# Altium schematic symbol library HQ_RPI_T113_V04_162_Library.SchLib: 163 symbols
Pins are listed as number, name and electrical type; pins without a type are passive.

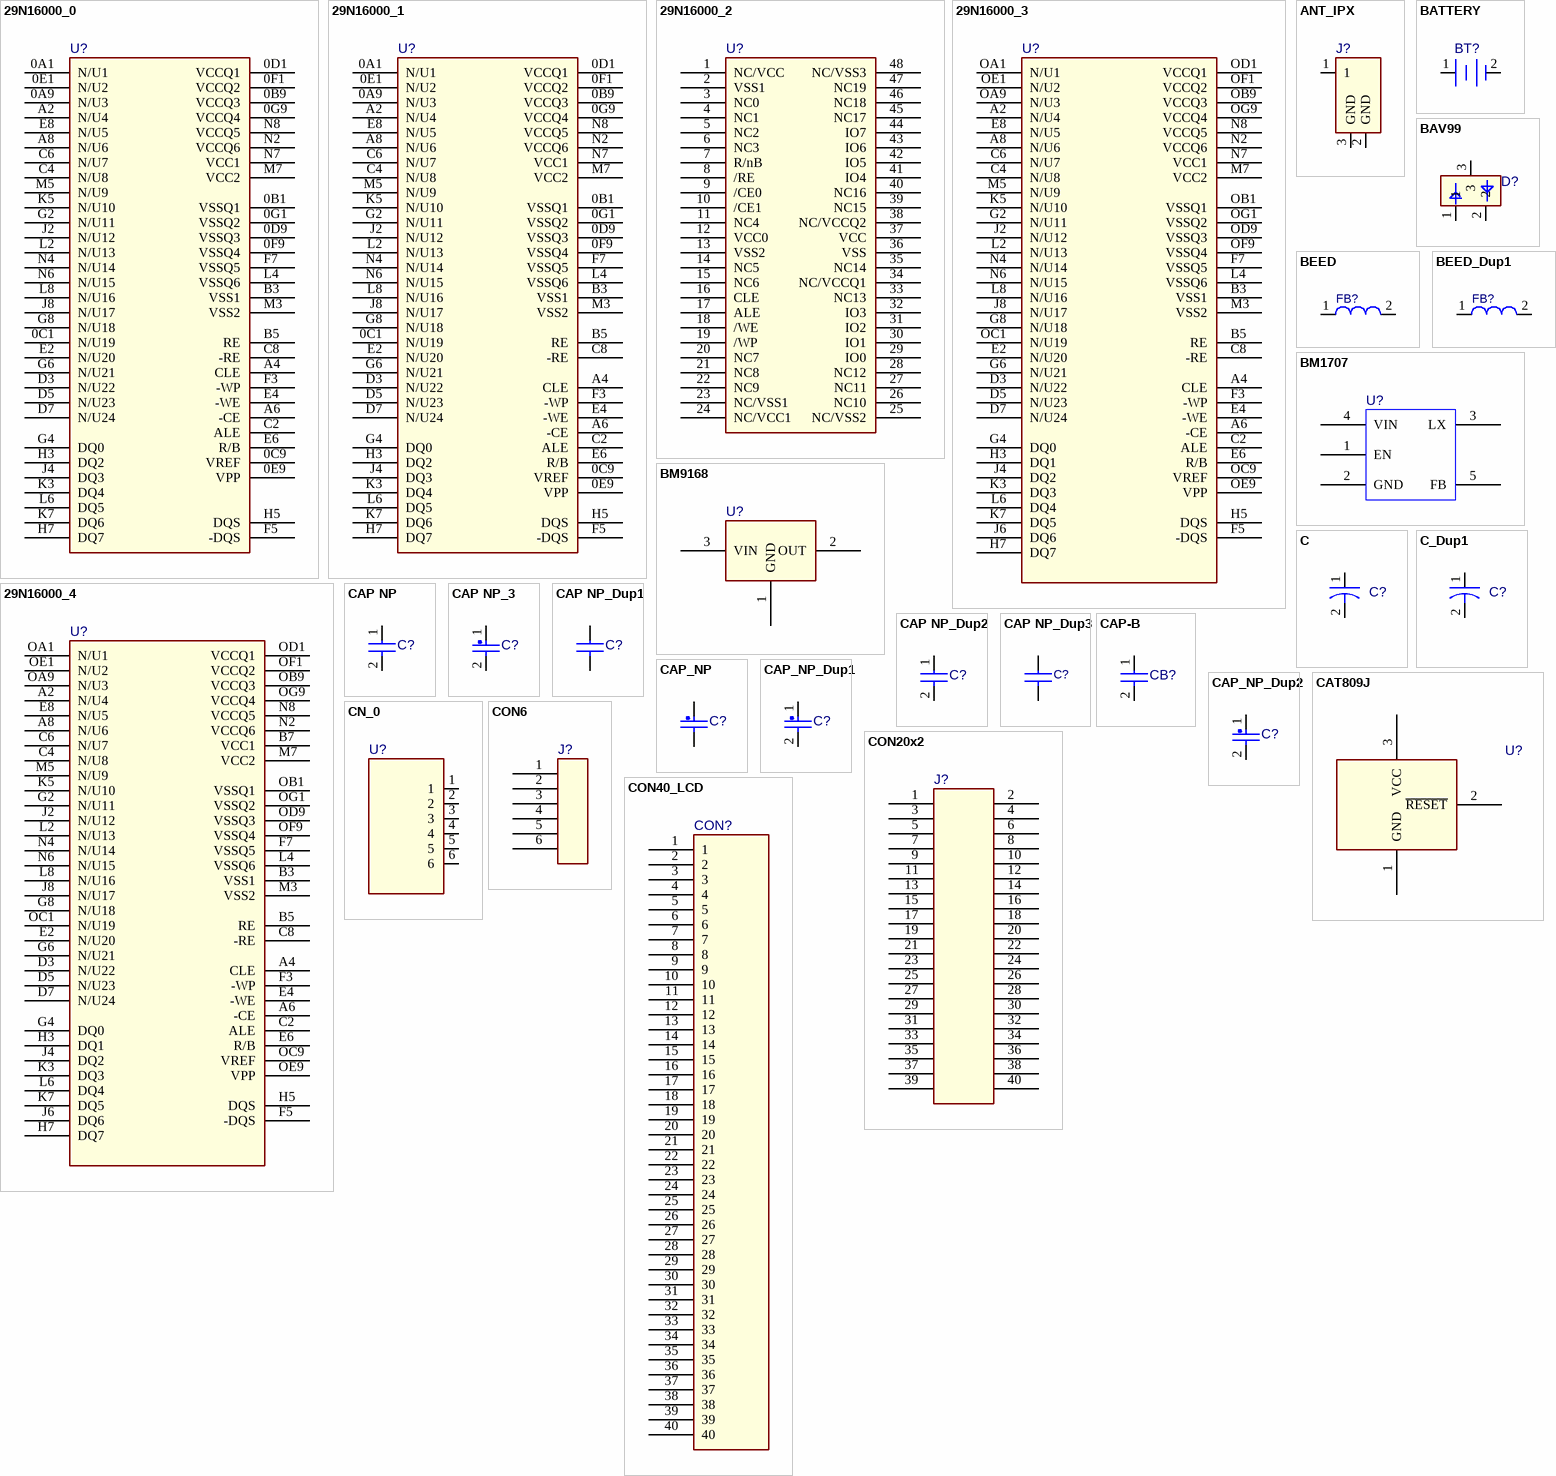
[diagram p0: symbols 29N16000_0 to CON40_LCD]

## 29N16000_0
designator U?
pins: 0A1 N/U1, 0A9 N/U3, 0B1 VSSQ1, 0B9 VCCQ3, 0C1 N/U19, 0C9 VREF, 0D1 VCCQ1, 0D9 VSSQ3, 0E1 N/U2, 0E9 VPP, 0F1 VCCQ2, 0F9 VSSQ4, 0G1 VSSQ2, 0G9 VCCQ4, A2 N/U4, A4 CLE, A6 -CE, A8 N/U6, B3 VSS1, B5 RE, C2 ALE, C4 N/U8, C6 N/U7, C8 -RE, D3 N/U22, D5 N/U23, D7 N/U24, E2 N/U20, E4 -WE, E6 R/B, E8 N/U5, F3 -WP, F5 -DQS, F7 VSSQ5, G2 N/U11, G4 DQ0, G6 N/U21, G8 N/U18, H3 DQ2, H5 DQS, H7 DQ7, J2 N/U12, J4 DQ3, J8 N/U17, K3 DQ4, K5 N/U10, K7 DQ6, L2 N/U13, L4 VSSQ6, L6 DQ5, L8 N/U16, M3 VSS2, M5 N/U9, M7 VCC2, N2 VCCQ6, N4 N/U14, N6 N/U15, N7 VCC1, N8 VCCQ5

## 29N16000_1
designator U?
pins: 0A1 N/U1, 0A9 N/U3, 0B1 VSSQ1, 0B9 VCCQ3, 0C1 N/U19, 0C9 VREF, 0D1 VCCQ1, 0D9 VSSQ3, 0E1 N/U2, 0E9 VPP, 0F1 VCCQ2, 0F9 VSSQ4, 0G1 VSSQ2, 0G9 VCCQ4, A2 N/U4, A4 CLE, A6 -CE, A8 N/U6, B3 VSS1, B5 RE, C2 ALE, C4 N/U8, C6 N/U7, C8 -RE, D3 N/U22, D5 N/U23, D7 N/U24, E2 N/U20, E4 -WE, E6 R/B, E8 N/U5, F3 -WP, F5 -DQS, F7 VSSQ5, G2 N/U11, G4 DQ0, G6 N/U21, G8 N/U18, H3 DQ2, H5 DQS, H7 DQ7, J2 N/U12, J4 DQ3, J8 N/U17, K3 DQ4, K5 N/U10, K7 DQ6, L2 N/U13, L4 VSSQ6, L6 DQ5, L8 N/U16, M3 VSS2, M5 N/U9, M7 VCC2, N2 VCCQ6, N4 N/U14, N6 N/U15, N7 VCC1, N8 VCCQ5

## 29N16000_2
designator U?
pins: 1 NC/VCC, 2 VSS1, 3 NC0, 4 NC1, 5 NC2, 6 NC3, 7 R/nB, 8 /RE, 9 /CE0, 10 /CE1, 11 NC4, 12 VCC0, 13 VSS2, 14 NC5, 15 NC6, 16 CLE, 17 ALE, 18 /WE, 19 /WP, 20 NC7, 21 NC8, 22 NC9, 23 NC/VSS1, 24 NC/VCC1, 25 NC/VSS2, 26 NC10, 27 NC11, 28 NC12, 29 IO0, 30 IO1, 31 IO2, 32 IO3, 33 NC13, 34 NC/VCCQ1, 35 NC14, 36 VSS, 37 VCC, 38 NC/VCCQ2, 39 NC15, 40 NC16, 41 IO4, 42 IO5, 43 IO6, 44 IO7, 45 NC17, 46 NC18, 47 NC19, 48 NC/VSS3

## 29N16000_3
designator U?
pins: A2 N/U4, A4 CLE, A6 -CE, A8 N/U6, B3 VSS1, B5 RE, C2 ALE, C4 N/U8, C6 N/U7, C8 -RE, D3 N/U22, D5 N/U23, D7 N/U24, E2 N/U20, E4 -WE, E6 R/B, E8 N/U5, F3 -WP, F5 -DQS, F7 VSSQ5, G2 N/U11, G4 DQ0, G6 N/U21, G8 N/U18, H3 DQ1, H5 DQS, H7 DQ7, J2 N/U12, J4 DQ2, J6 DQ6, J8 N/U17, K3 DQ3, K5 N/U10, K7 DQ5, L2 N/U13, L4 VSSQ6, L6 DQ4, L8 N/U16, M3 VSS2, M5 N/U9, M7 VCC2, N2 VCCQ6, N4 N/U14, N6 N/U15, N7 VCC1, N8 VCCQ5, OA1 N/U1, OA9 N/U3, OB1 VSSQ1, OB9 VCCQ3, OC1 N/U19, OC9 VREF, OD1 VCCQ1, OD9 VSSQ3, OE1 N/U2, OE9 VPP, OF1 VCCQ2, OF9 VSSQ4, OG1 VSSQ2, OG9 VCCQ4

## 29N16000_4
designator U?
pins: A2 N/U4, A4 CLE, A6 -CE, A8 N/U6, B3 VSS1, B5 RE, B7 VCC1, C2 ALE, C4 N/U8, C6 N/U7, C8 -RE, D3 N/U22, D5 N/U23, D7 N/U24, E2 N/U20, E4 -WE, E6 R/B, E8 N/U5, F3 -WP, F5 -DQS, F7 VSSQ5, G2 N/U11, G4 DQ0, G6 N/U21, G8 N/U18, H3 DQ1, H5 DQS, H7 DQ7, J2 N/U12, J4 DQ2, J6 DQ6, J8 N/U17, K3 DQ3, K5 N/U10, K7 DQ5, L2 N/U13, L4 VSSQ6, L6 DQ4, L8 N/U16, M3 VSS2, M5 N/U9, M7 VCC2, N2 VCCQ6, N4 N/U14, N6 N/U15, N8 VCCQ5, OA1 N/U1, OA9 N/U3, OB1 VSSQ1, OB9 VCCQ3, OC1 N/U19, OC9 VREF, OD1 VCCQ1, OD9 VSSQ3, OE1 N/U2, OE9 VPP, OF1 VCCQ2, OF9 VSSQ4, OG1 VSSQ2, OG9 VCCQ4

## ANT_IPX
designator J?
footprint ANT_IPX
pins: 1, 2 GND, 3 GND

## BATTERY
designator BT?
footprint CON_CR2032
pins: 1 +, 2 -

## BAV99
designator D?
footprint SOT23
pins: 1, 2, 3

## BEED
designator FB?
footprint L0805
pins: 1, 2

## BEED_Dup1
designator FB?
footprint L0805
pins: 1, 2

## BM1707
designator U?
footprint SOT23-5
pins: 1 EN, 2 GND, 3 LX, 4 VIN, 5 FB

## BM9168
designator U?
footprint SOT23
pins: 1 GND, 2 OUT, 3 VIN

## C
designator C?
footprint C1206
pins: 1, 2

## C_Dup1
designator C?
footprint C1206
pins: 1, 2

## CAP NP
designator C?
footprint C0603
pins: 1, 2

## CAP NP_3
designator C?
CLASS: DISCRETE
footprint C0603
pins: 1, 2

## CAP NP_Dup1
designator C?
pins: 1, 2

## CAP NP_Dup2
designator C?
footprint RC_C0603
pins: 1, 2

## CAP NP_Dup3
designator C?
OriginalSymbolOrigin: (0,0)
pins: 1, 2

## CAP-B
designator CB?
pins: 1, 2

## CAP_NP
designator C?
CLASS: DISCRETE
pins: 1, 2

## CAP_NP_Dup1
designator C?
CLASS: DISCRETE
footprint C0603
pins: 1, 2

## CAP_NP_Dup2
designator C?
CLASS: DISCRETE
footprint C0603
pins: 1, 2

## CAT809J
designator U?
footprint SOT23
pins: 1 GND, 2 ~{RESET}, 3 VCC

## CN_0
designator U?
pins: 1, 2, 3, 4, 5, 6

## CON6
designator J?
pins: 1, 2, 3, 4, 5, 6

## CON20x2
designator J?
pins: 1, 2, 3, 4, 5, 6, 7, 8, 9, 10, 11, 12, 13, 14, 15, 16, 17, 18, 19, 20, 21, 22, 23, 24, 25, 26, 27, 28, 29, 30, 31, 32, 33, 34, 35, 36, 37, 38, 39, 40

## CON40_LCD
designator CON?
pins: 1, 2, 3, 4, 5, 6, 7, 8, 9, 10, 11, 12, 13, 14, 15, 16, 17, 18, 19, 20, 21, 22, 23, 24, 25, 26, 27, 28, 29, 30, 31, 32, 33, 34, 35, 36, 37, 38, 39, 40

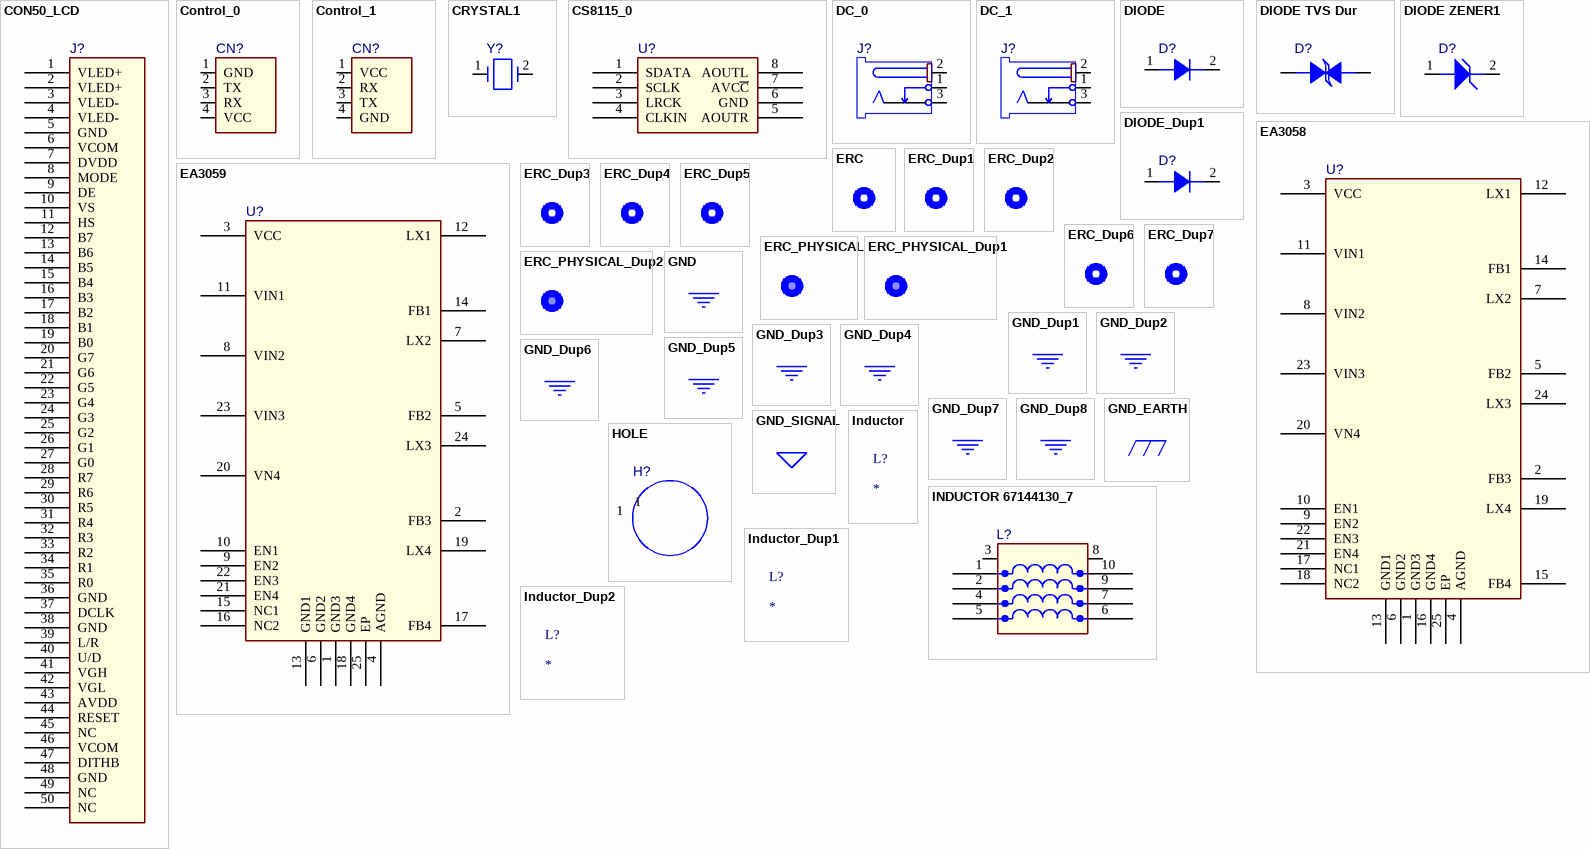
[diagram p1: symbols CON50_LCD to Inductor_Dup2]

## CON50_LCD
designator J?
pins: 1 VLED+, 2 VLED+, 3 VLED-, 4 VLED-, 5 GND, 6 VCOM, 7 DVDD, 8 MODE, 9 DE, 10 VS, 11 HS, 12 B7, 13 B6, 14 B5, 15 B4, 16 B3, 17 B2, 18 B1, 19 B0, 20 G7, 21 G6, 22 G5, 23 G4, 24 G3, 25 G2, 26 G1, 27 G0, 28 R7, 29 R6, 30 R5, 31 R4, 32 R3, 33 R2, 34 R1, 35 R0, 36 GND, 37 DCLK, 38 GND, 39 L/R, 40 U/D, 41 VGH, 42 VGL, 43 AVDD, 44 RESET, 45 NC, 46 VCOM, 47 DITHB, 48 GND, 49 NC, 50 NC

## Control_0
designator CN?
pins: 1 GND, 2 TX, 3 RX, 4 VCC

## Control_1
designator CN?
pins: 1 VCC, 2 RX, 3 TX, 4 GND

## CRYSTAL1
designator Y?
footprint XTAL_3
pins: 1, 2

## CS8115_0
designator U?
footprint MSOP8
pins: 1 SDATA, 2 SCLK, 3 LRCK, 4 CLKIN, 5 AOUTR, 6 GND, 7 AVC~{C}, 8 AOUTL

## DC_0
designator J?
footprint DC_005B
pins: 1, 2, 3

## DC_1
designator J?
footprint DC_005B
pins: 1, 2, 3

## DIODE
designator D?
footprint D0805
pins: 1 A, 2 K

## DIODE TVS Dur
designator D?
footprint SMB
pins: 1 ANODE, 2 CATHODE

## DIODE ZENER1
designator D?
pins: 1 ANODE, 2 CATHODE

## DIODE_Dup1
designator D?
footprint DIODE
pins: 1 A, 2 K

## EA3058
designator U?
footprint QFN24_0P5_4X4_EP
pins: 1 GND3, 2 FB3, 3 VCC, 4 AGND, 5 FB2, 6 GND2, 7 LX2, 8 VIN2, 9 EN2, 10 EN1, 11 VIN1, 12 LX1, 13 GND1, 14 FB1, 15 FB4, 16 GND4, 17 NC1, 18 NC2, 19 LX4, 20 VN4, 21 EN4, 22 EN3, 23 VIN3, 24 LX3, 25 EP

## EA3059
designator U?
footprint QFN24_0P5_4X4_EP
pins: 1 GND3, 2 FB3, 3 VCC, 4 AGND, 5 FB2, 6 GND2, 7 LX2, 8 VIN2, 9 EN2, 10 EN1, 11 VIN1, 12 LX1, 13 GND1, 14 FB1, 15 NC1, 16 NC2, 17 FB4, 18 GND4, 19 LX4, 20 VN4, 21 EN4, 22 EN3, 23 VIN3, 24 LX3, 25 EP

## ERC
designator *  (value not drawn)  (graphical)

## ERC_Dup1
designator *  (value not drawn)  (graphical)

## ERC_Dup2
designator *  (value not drawn)  (graphical)

## ERC_Dup3
designator *  (value not drawn)  (graphical)

## ERC_Dup4
designator *  (value not drawn)  (graphical)

## ERC_Dup5
designator *  (value not drawn)  (graphical)

## ERC_Dup6
designator *  (value not drawn)  (graphical)

## ERC_Dup7
designator *  (value not drawn)  (graphical)

## ERC_PHYSICAL
designator *  (value not drawn)  (graphical)

## ERC_PHYSICAL_Dup1
designator *  (value not drawn)  (graphical)

## ERC_PHYSICAL_Dup2
designator *  (value not drawn)  (graphical)

## GND
designator *  (value not drawn)  (graphical)
pins: $PIN0 (power) hidden to $PIN0

## GND_Dup1
designator *  (value not drawn)  (graphical)
pins: $PIN0 (power) hidden to $PIN0

## GND_Dup2
designator *  (value not drawn)  (graphical)
pins: $PIN0 (power) hidden to $PIN0

## GND_Dup3
designator *  (value not drawn)  (graphical)
pins: $PIN0 (power) hidden to $PIN0

## GND_Dup4
designator *  (value not drawn)  (graphical)
pins: $PIN0 (power) hidden to $PIN0

## GND_Dup5
designator *  (value not drawn)  (graphical)
pins: $PIN0 (power) hidden to $PIN0

## GND_Dup6
designator *  (value not drawn)  (graphical)
pins: $PIN0 (power) hidden to $PIN0

## GND_Dup7
designator *  (value not drawn)  (graphical)
pins: $PIN0 (power) hidden to $PIN0

## GND_Dup8
designator *  (value not drawn)  (graphical)
SDTSourceLibName: C:\rd\ui\DEVICE.LIB
pins: $PIN0 (power) hidden to $PIN0

## GND_EARTH
designator *  (value not drawn)  (graphical)
pins: $PIN0 (power) hidden to $PIN0

## GND_SIGNAL
designator *  (value not drawn)  (graphical)
pins: GND (power) hidden to GND

## HOLE
designator H?
footprint HOLE-260/125
pins: 1

## Inductor
designator L?
footprint L4X4

## INDUCTOR 67144130_7
designator L?
pins: 1, 2, 3, 4, 5, 6, 7, 8, 9, 10

## Inductor_Dup1
designator L?
footprint L4X4

## Inductor_Dup2
designator L?
footprint L1206

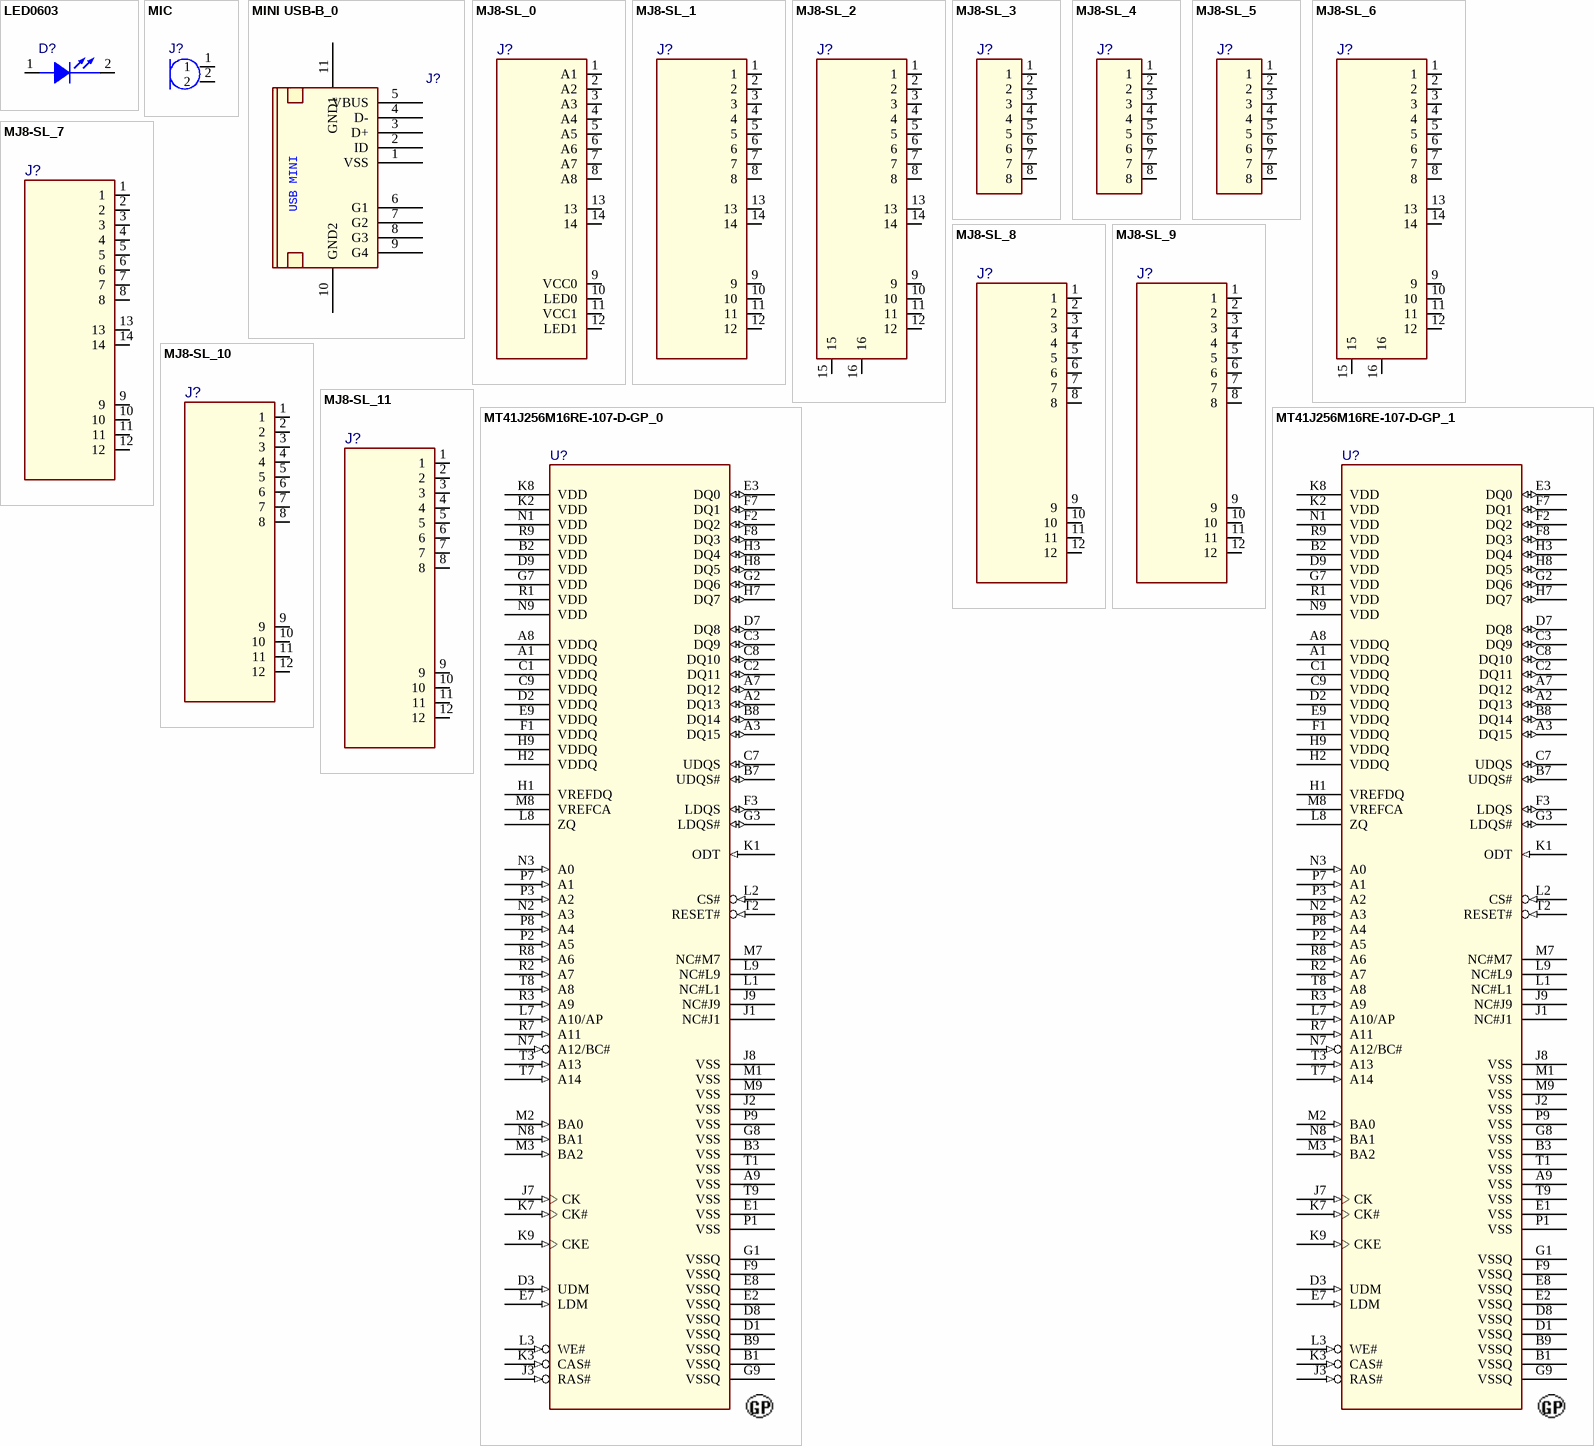
[diagram p2: symbols LED0603 to MT41J256M16RE-107-D-GP_1]

## LED0603
designator D?
footprint LED0603
pins: 1 ANODE, 2 CATHODE

## MIC
designator J?
footprint MIC_01
pins: 1, 2

## MINI USB-B_0
designator J?
pins: 1 VSS, 2 ID, 3 D+, 4 D-, 5 VBUS, 6 G1, 7 G2, 8 G3, 9 G4, 10 GND2, 11 GND1
text: USB MINI

## MJ8-SL_0
designator J?, comment MJ8-SL  (value not drawn)
PARTS: 1; DEVICE: MJ8_L; LEVEL: STD; OriginalSymbolOrigin: (0,0); Value: MJ8-SL
pins: 1 A1 (io), 2 A2 (io), 3 A3 (io), 4 A4 (io), 5 A5 (io), 6 A6 (io), 7 A7 (io), 8 A8 (io), 9 VCC0 (io), 10 LED0 (io), 11 VCC1 (io), 12 LED1 (io), 13 (io), 14 (io)

## MJ8-SL_1
designator J?, comment MJ8-SL  (value not drawn)
PARTS: 1; OriginalSymbolOrigin: (0,0); LEVEL: STD; DEVICE: MJ8_L; Value: MJ8-SL
pins: 1 (io), 2 (io), 3 (io), 4 (io), 5 (io), 6 (io), 7 (io), 8 (io), 9 (io), 10 (io), 11 (io), 12 (io), 13 (io), 14 (io)

## MJ8-SL_2
designator J?, comment MJ8-SL  (value not drawn)
PARTS: 1; OriginalSymbolOrigin: (0,0); LEVEL: STD; DEVICE: MJ8_L; Value: MJ8-SL
pins: 1 (io), 2 (io), 3 (io), 4 (io), 5 (io), 6 (io), 7 (io), 8 (io), 9 (io), 10 (io), 11 (io), 12 (io), 13 (io), 14 (io), 15 (io), 16 (io)

## MJ8-SL_3
designator J?, comment MJ8-SL  (value not drawn)
PARTS: 1; OriginalSymbolOrigin: (0,0); LEVEL: STD; DEVICE: MJ8_L; Value: MJ8-SL
pins: 1 (io), 2 (io), 3 (io), 4 (io), 5 (io), 6 (io), 7 (io), 8 (io)

## MJ8-SL_4
designator J?, comment MJ8-SL  (value not drawn)
PARTS: 1; OriginalSymbolOrigin: (0,0); LEVEL: STD; DEVICE: MJ8_L; Value: MJ8-SL
pins: 1 (io), 2 (io), 3 (io), 4 (io), 5 (io), 6, 7, 8

## MJ8-SL_5
designator J?, comment MJ8-SL  (value not drawn)
PARTS: 1; OriginalSymbolOrigin: (0,0); LEVEL: STD; DEVICE: MJ8_L; Value: MJ8-SL
pins: 1, 2, 3, 4, 5, 6, 7, 8

## MJ8-SL_6
designator J?, comment MJ8-SL  (value not drawn)
PARTS: 1; OriginalSymbolOrigin: (0,0); LEVEL: STD; DEVICE: MJ8_L; Value: MJ8-SL
pins: 1, 2, 3, 4, 5, 6, 7, 8, 9, 10, 11, 12, 13, 14, 15 (io), 16 (io)

## MJ8-SL_7
designator J?, comment MJ8-SL  (value not drawn)
PARTS: 1; DEVICE: MJ8_L; LEVEL: STD; OriginalSymbolOrigin: (0,0); Value: MJ8-SL
pins: 1, 2, 3, 4, 5, 6, 7, 8, 9, 10, 11, 12, 13, 14

## MJ8-SL_8
designator J?, comment MJ8-SL  (value not drawn)
PARTS: 1; DEVICE: MJ8_L; LEVEL: STD; OriginalSymbolOrigin: (0,0); Value: MJ8-SL
pins: 1 (io), 2 (io), 3 (io), 4 (io), 5 (io), 6 (io), 7 (io), 8 (io), 9, 10, 11, 12

## MJ8-SL_9
designator J?, comment MJ8-SL  (value not drawn)
PARTS: 1; DEVICE: MJ8_L; LEVEL: STD; OriginalSymbolOrigin: (0,0); Value: MJ8-SL
pins: 1, 2, 3, 4, 5, 6, 7, 8, 9 (io), 10 (io), 11 (io), 12 (io)

## MJ8-SL_10
designator J?, comment MJ8-SL  (value not drawn)
PARTS: 1; DEVICE: MJ8_L; LEVEL: STD; OriginalSymbolOrigin: (0,0); Value: MJ8-SL
pins: 1, 2, 3, 4, 5, 6, 7, 8, 9, 10, 11, 12

## MJ8-SL_11
designator J?, comment MJ8-SL  (value not drawn)
PARTS: 1; OriginalSymbolOrigin: (0,0); LEVEL: STD; DEVICE: MJ8_L; Value: MJ8-SL
pins: 1, 2, 3, 4, 5, 6, 7, 8, 9, 10, 11, 12

## MT41J256M16RE-107-D-GP_0
designator U?
pins: A1 VDDQ (power), A2 DQ13 (io), A3 DQ15 (io), A7 DQ12 (io), A8 VDDQ (power), A9 VSS (power), B1 VSSQ (power), B2 VDD (power), B3 VSS (power), B7 UDQS# (io), B8 DQ14 (io), B9 VSSQ (power), C1 VDDQ (power), C2 DQ11 (io), C3 DQ9 (io), C7 UDQS (io), C8 DQ10 (io), C9 VDDQ (power), D1 VSSQ (power), D2 VDDQ (power), D3 UDM (in), D7 DQ8 (io), D8 VSSQ (power), D9 VDD (power), E1 VSS (power), E2 VSSQ (power), E3 DQ0 (io), E7 LDM (in), E8 VSSQ (power), E9 VDDQ (power), F1 VDDQ (power), F2 DQ2 (io), F3 LDQS (io), F7 DQ1 (io), F8 DQ3 (io), F9 VSSQ (power), G1 VSSQ (power), G2 DQ6 (io), G3 LDQS# (io), G7 VDD (power), G8 VSS (power), G9 VSSQ (power), H1 VREFDQ (power), H2 VDDQ (power), H3 DQ4 (io), H7 DQ7 (io), H8 DQ5 (io), H9 VDDQ (power), J1 NC#J1, J2 VSS (power), J3 RAS# (in), J7 CK (in), J8 VSS (power), J9 NC#J9, K1 ODT (in), K2 VDD (power), K3 CAS# (in), K7 CK# (in), K8 VDD (power), K9 CKE (in), L1 NC#L1, L2 CS# (in), L3 WE# (in), L7 A10/AP (in), L8 ZQ, L9 NC#L9, M1 VSS (power), M2 BA0 (in), M3 BA2 (in), M7 NC#M7, M8 VREFCA (power), M9 VSS (power), N1 VDD (power), N2 A3 (in), N3 A0 (in), N7 A12/BC# (in), N8 BA1 (in), N9 VDD (power), P1 VSS (power), P2 A5 (in), P3 A2 (in), P7 A1 (in), P8 A4 (in), P9 VSS (power), R1 VDD (power), R2 A7 (in), R3 A9 (in), R7 A11 (in), R8 A6 (in), R9 VDD (power), T1 VSS (power), T2 RESET# (in), T3 A13 (in), T7 A14 (in), T8 A8 (in), T9 VSS (power)

## MT41J256M16RE-107-D-GP_1
designator U?
pins: A1 VDDQ, A2 DQ13 (io), A3 DQ15 (io), A7 DQ12 (io), A8 VDDQ, A9 VSS (power), B1 VSSQ (power), B2 VDD, B3 VSS (power), B7 UDQS# (io), B8 DQ14 (io), B9 VSSQ (power), C1 VDDQ, C2 DQ11 (io), C3 DQ9 (io), C7 UDQS (io), C8 DQ10 (io), C9 VDDQ, D1 VSSQ (power), D2 VDDQ, D3 UDM (in), D7 DQ8 (io), D8 VSSQ (power), D9 VDD, E1 VSS (power), E2 VSSQ (power), E3 DQ0 (io), E7 LDM (in), E8 VSSQ (power), E9 VDDQ, F1 VDDQ, F2 DQ2 (io), F3 LDQS (io), F7 DQ1 (io), F8 DQ3 (io), F9 VSSQ (power), G1 VSSQ (power), G2 DQ6 (io), G3 LDQS# (io), G7 VDD, G8 VSS (power), G9 VSSQ (power), H1 VREFDQ, H2 VDDQ, H3 DQ4 (io), H7 DQ7 (io), H8 DQ5 (io), H9 VDDQ, J1 NC#J1, J2 VSS (power), J3 RAS# (in), J7 CK (in), J8 VSS (power), J9 NC#J9, K1 ODT (in), K2 VDD, K3 CAS# (in), K7 CK# (in), K8 VDD, K9 CKE (in), L1 NC#L1, L2 CS# (in), L3 WE# (in), L7 A10/AP (in), L8 ZQ, L9 NC#L9, M1 VSS (power), M2 BA0 (in), M3 BA2 (in), M7 NC#M7, M8 VREFCA (power), M9 VSS (power), N1 VDD, N2 A3 (in), N3 A0 (in), N7 A12/BC# (in), N8 BA1 (in), N9 VDD, P1 VSS (power), P2 A5 (in), P3 A2 (in), P7 A1 (in), P8 A4 (in), P9 VSS (power), R1 VDD, R2 A7 (in), R3 A9 (in), R7 A11 (in), R8 A6 (in), R9 VDD, T1 VSS (power), T2 RESET# (in), T3 A13 (in), T7 A14 (in), T8 A8 (in), T9 VSS (power)

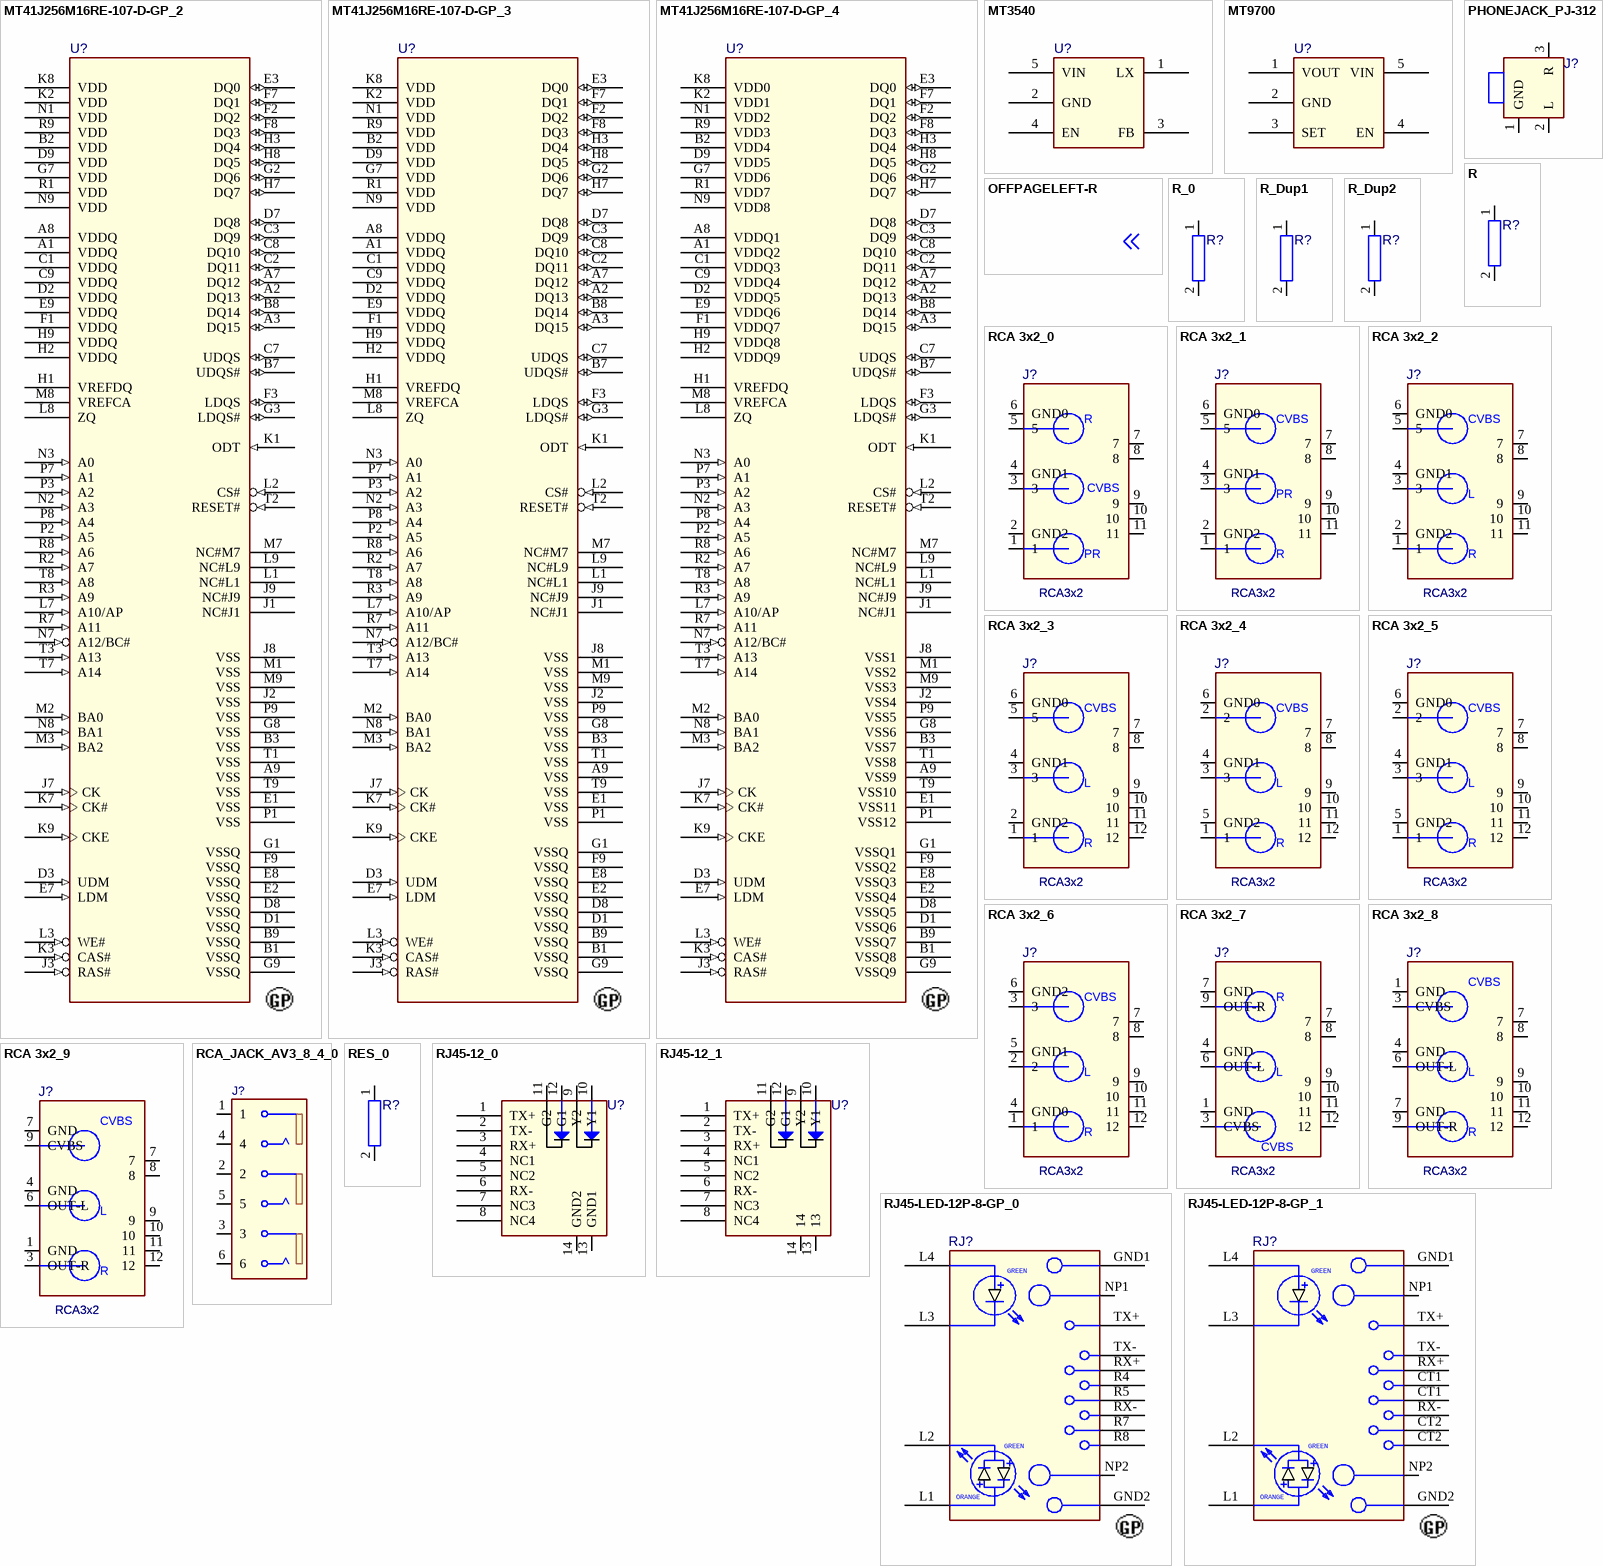
[diagram p3: symbols MT41J256M16RE-107-D-GP_2 to RJ45-LED-12P-8-GP_1]

## MT41J256M16RE-107-D-GP_2
designator U?
pins: A1 VDDQ (power), A2 DQ13 (io), A3 DQ15 (io), A7 DQ12 (io), A8 VDDQ (power), A9 VSS (power), B1 VSSQ (power), B2 VDD (power), B3 VSS (power), B7 UDQS# (io), B8 DQ14 (io), B9 VSSQ (power), C1 VDDQ (power), C2 DQ11 (io), C3 DQ9 (io), C7 UDQS (io), C8 DQ10 (io), C9 VDDQ (power), D1 VSSQ (power), D2 VDDQ (power), D3 UDM (in), D7 DQ8 (io), D8 VSSQ (power), D9 VDD (power), E1 VSS (power), E2 VSSQ (power), E3 DQ0 (io), E7 LDM (in), E8 VSSQ (power), E9 VDDQ (power), F1 VDDQ (power), F2 DQ2 (io), F3 LDQS (io), F7 DQ1 (io), F8 DQ3 (io), F9 VSSQ (power), G1 VSSQ (power), G2 DQ6 (io), G3 LDQS# (io), G7 VDD (power), G8 VSS (power), G9 VSSQ (power), H1 VREFDQ (power), H2 VDDQ (power), H3 DQ4 (io), H7 DQ7 (io), H8 DQ5 (io), H9 VDDQ (power), J1 NC#J1, J2 VSS (power), J3 RAS# (in), J7 CK (in), J8 VSS (power), J9 NC#J9, K1 ODT (in), K2 VDD (power), K3 CAS# (in), K7 CK# (in), K8 VDD (power), K9 CKE (in), L1 NC#L1, L2 CS# (in), L3 WE# (in), L7 A10/AP (in), L8 ZQ, L9 NC#L9, M1 VSS (power), M2 BA0 (in), M3 BA2 (in), M7 NC#M7, M8 VREFCA (power), M9 VSS (power), N1 VDD (power), N2 A3 (in), N3 A0 (in), N7 A12/BC# (in), N8 BA1 (in), N9 VDD (power), P1 VSS (power), P2 A5 (in), P3 A2 (in), P7 A1 (in), P8 A4 (in), P9 VSS (power), R1 VDD (power), R2 A7 (in), R3 A9 (in), R7 A11 (in), R8 A6 (in), R9 VDD (power), T1 VSS (power), T2 RESET# (in), T3 A13 (in), T7 A14 (in), T8 A8 (in), T9 VSS (power)

## MT41J256M16RE-107-D-GP_3
designator U?
pins: A1 VDDQ, A2 DQ13 (io), A3 DQ15 (io), A7 DQ12 (io), A8 VDDQ, A9 VSS (power), B1 VSSQ (power), B2 VDD, B3 VSS (power), B7 UDQS# (io), B8 DQ14 (io), B9 VSSQ (power), C1 VDDQ, C2 DQ11 (io), C3 DQ9 (io), C7 UDQS (io), C8 DQ10 (io), C9 VDDQ, D1 VSSQ (power), D2 VDDQ, D3 UDM (in), D7 DQ8 (io), D8 VSSQ (power), D9 VDD, E1 VSS (power), E2 VSSQ (power), E3 DQ0 (io), E7 LDM (in), E8 VSSQ (power), E9 VDDQ, F1 VDDQ, F2 DQ2 (io), F3 LDQS (io), F7 DQ1 (io), F8 DQ3 (io), F9 VSSQ (power), G1 VSSQ (power), G2 DQ6 (io), G3 LDQS# (io), G7 VDD, G8 VSS (power), G9 VSSQ (power), H1 VREFDQ, H2 VDDQ, H3 DQ4 (io), H7 DQ7 (io), H8 DQ5 (io), H9 VDDQ, J1 NC#J1, J2 VSS (power), J3 RAS# (in), J7 CK (in), J8 VSS (power), J9 NC#J9, K1 ODT (in), K2 VDD, K3 CAS# (in), K7 CK# (in), K8 VDD, K9 CKE (in), L1 NC#L1, L2 CS# (in), L3 WE# (in), L7 A10/AP (in), L8 ZQ, L9 NC#L9, M1 VSS (power), M2 BA0 (in), M3 BA2 (in), M7 NC#M7, M8 VREFCA (power), M9 VSS (power), N1 VDD, N2 A3 (in), N3 A0 (in), N7 A12/BC# (in), N8 BA1 (in), N9 VDD, P1 VSS (power), P2 A5 (in), P3 A2 (in), P7 A1 (in), P8 A4 (in), P9 VSS (power), R1 VDD, R2 A7 (in), R3 A9 (in), R7 A11 (in), R8 A6 (in), R9 VDD, T1 VSS (power), T2 RESET# (in), T3 A13 (in), T7 A14 (in), T8 A8 (in), T9 VSS (power)

## MT41J256M16RE-107-D-GP_4
designator U?
pins: A1 VDDQ2, A2 DQ13 (io), A3 DQ15 (io), A7 DQ12 (io), A8 VDDQ1, A9 VSS9 (power), B1 VSSQ8 (power), B2 VDD4, B3 VSS7 (power), B7 UDQS# (io), B8 DQ14 (io), B9 VSSQ7 (power), C1 VDDQ3, C2 DQ11 (io), C3 DQ9 (io), C7 UDQS (io), C8 DQ10 (io), C9 VDDQ4, D1 VSSQ6 (power), D2 VDDQ5, D3 UDM (in), D7 DQ8 (io), D8 VSSQ5 (power), D9 VDD5, E1 VSS11 (power), E2 VSSQ4 (power), E3 DQ0 (io), E7 LDM (in), E8 VSSQ3 (power), E9 VDDQ6, F1 VDDQ7, F2 DQ2 (io), F3 LDQS (io), F7 DQ1 (io), F8 DQ3 (io), F9 VSSQ2 (power), G1 VSSQ1 (power), G2 DQ6 (io), G3 LDQS# (io), G7 VDD6, G8 VSS6 (power), G9 VSSQ9 (power), H1 VREFDQ, H2 VDDQ9, H3 DQ4 (io), H7 DQ7 (io), H8 DQ5 (io), H9 VDDQ8, J1 NC#J1, J2 VSS4 (power), J3 RAS# (in), J7 CK (in), J8 VSS1 (power), J9 NC#J9, K1 ODT (in), K2 VDD1, K3 CAS# (in), K7 CK# (in), K8 VDD0, K9 CKE (in), L1 NC#L1, L2 CS# (in), L3 WE# (in), L7 A10/AP (in), L8 ZQ, L9 NC#L9, M1 VSS2 (power), M2 BA0 (in), M3 BA2 (in), M7 NC#M7, M8 VREFCA (power), M9 VSS3 (power), N1 VDD2, N2 A3 (in), N3 A0 (in), N7 A12/BC# (in), N8 BA1 (in), N9 VDD8, P1 VSS12 (power), P2 A5 (in), P3 A2 (in), P7 A1 (in), P8 A4 (in), P9 VSS5 (power), R1 VDD7, R2 A7 (in), R3 A9 (in), R7 A11 (in), R8 A6 (in), R9 VDD3, T1 VSS8 (power), T2 RESET# (in), T3 A13 (in), T7 A14 (in), T8 A8 (in), T9 VSS10 (power)

## MT3540
designator U?
footprint SOT23-5
pins: 1 LX, 2 GND, 3 FB, 4 EN, 5 VIN

## MT9700
designator U?
footprint SOT23-5
pins: 1 VOUT, 2 GND, 3 SET, 4 EN, 5 VIN

## OFFPAGELEFT-R
designator *  (value not drawn)  (graphical)
pins: $PIN0 (in) hidden

## PHONEJACK_PJ-312
designator J?
footprint PHONEJACK_PJ-312_DIP
pins: 1 GND, 2 L, 3 R

## R
designator R?
footprint R0603
pins: 1, 2

## R_0
designator R?
footprint R0603
pins: 1, 2

## R_Dup1
designator R?
footprint R0603
pins: 1, 2

## R_Dup2
designator R?
footprint R0603
pins: 1, 2

## RCA 3x2_0
designator J?, comment RCA3x2
Value: RCA3x2
footprint AV6-84-13
pins: 1, 2 GND2, 3, 4 GND1, 5, 6 GND0, 7 (io), 8 (io), 9 (io), 10 (io), 11 (io)
text: R; CVBS; PR

## RCA 3x2_1
designator J?, comment RCA3x2
Value: RCA3x2
footprint AV6-84-13
pins: 1, 2 GND2, 3, 4 GND1, 5, 6 GND0, 7 (io), 8 (io), 9 (io), 10 (io), 11 (io)
text: CVBS; PR; R

## RCA 3x2_2
designator J?, comment RCA3x2
Value: RCA3x2
footprint AV6-84-13
pins: 1, 2 GND2, 3, 4 GND1, 5, 6 GND0, 7 (io), 8 (io), 9 (io), 10 (io), 11 (io)
text: CVBS; L; R

## RCA 3x2_3
designator J?, comment RCA3x2
Value: RCA3x2
footprint AV6-84-13
pins: 1, 2 GND2, 3, 4 GND1, 5, 6 GND0, 7 (io), 8 (io), 9 (io), 10 (io), 11 (io), 12 (io)
text: CVBS; L; R

## RCA 3x2_4
designator J?, comment RCA3x2
Value: RCA3x2
footprint AV6-84-13
pins: 1, 2, 3, 4 GND1, 5 GND2, 6 GND0, 7 (io), 8 (io), 9 (io), 10 (io), 11 (io), 12 (io)
text: CVBS; L; R

## RCA 3x2_5
designator J?, comment RCA3x2
Value: RCA3x2
footprint AV6-84-13
pins: 1, 2, 3, 4 GND1, 5 GND2, 6 GND0, 7 (io), 8 (io), 9 (io), 10 (io), 11 (io), 12 (io)
text: CVBS; L; R

## RCA 3x2_6
designator J?, comment RCA3x2
Value: RCA3x2
footprint AV6-84-13
pins: 1, 2, 3, 4 GND0, 5 GND1, 6 GND2, 7 (io), 8 (io), 9 (io), 10 (io), 11 (io), 12 (io)
text: CVBS; L; R

## RCA 3x2_7
designator J?, comment RCA3x2
Value: RCA3x2
footprint AV6-84-13
pins: 1 GND, 3 CVBS, 4 GND, 6 OUT-L, 7 GND, 7 (io), 8 (io), 9 OUT-R, 9 (io), 10 (io), 11 (io), 12 (io)
text: R; L

## RCA 3x2_8
designator J?, comment RCA3x2
Value: RCA3x2
footprint AV6-84-13
pins: 1 GND, 3 CVBS, 4 GND, 6 OUT-L, 7 GND, 7 (io), 8 (io), 9 OUT-R, 9 (io), 10 (io), 11 (io), 12 (io)
text: L; R

## RCA 3x2_9
designator J?, comment RCA3x2
Value: RCA3x2
footprint AV6-84-13
pins: 1 GND, 3 OUT-R, 4 GND, 6 OUT-L, 7 GND, 7 (io), 8 (io), 9 CVBS, 9 (io), 10 (io), 11 (io), 12 (io)
text: L; R

## RCA_JACK_AV3_8_4_0
designator J?
Update: Leon;2005-3-3
footprint RCA_JACK_AV3_8_4_14
pins: 1, 2, 3, 4, 5, 6

## RES_0
designator R?
pins: 1, 2

## RJ45-12_0
designator U?
pins: 1 TX+, 2 TX-, 3 RX+, 4 NC1, 5 NC2, 6 RX-, 7 NC3, 8 NC4, 9 Y2, 10 Y1, 11 G2, 12 G1, 13 GND1, 14 GND2

## RJ45-12_1
designator U?
pins: 1 TX+, 2 TX-, 3 RX+, 4 NC1, 5 NC2, 6 RX-, 7 NC3, 8 NC4, 9 Y2, 10 Y1, 11 G2, 12 G1, 13, 14

## RJ45-LED-12P-8-GP_0
designator RJ?
pins: GND1, GND2, L1, L2, L3, L4, NP1, NP2, R4, R5, R7, R8, RX+ R3, RX- R6, TX+ R1, TX- R2
text: GREEN; ORANGE

## RJ45-LED-12P-8-GP_1
designator RJ?
pins: CT1 R4, CT1 5, CT2 7, CT2 8, GND1, GND2, L1, L2, L3, L4, NP1, NP2, RX+ 3, RX- 6, TX+ 1, TX- 2
text: GREEN; ORANGE

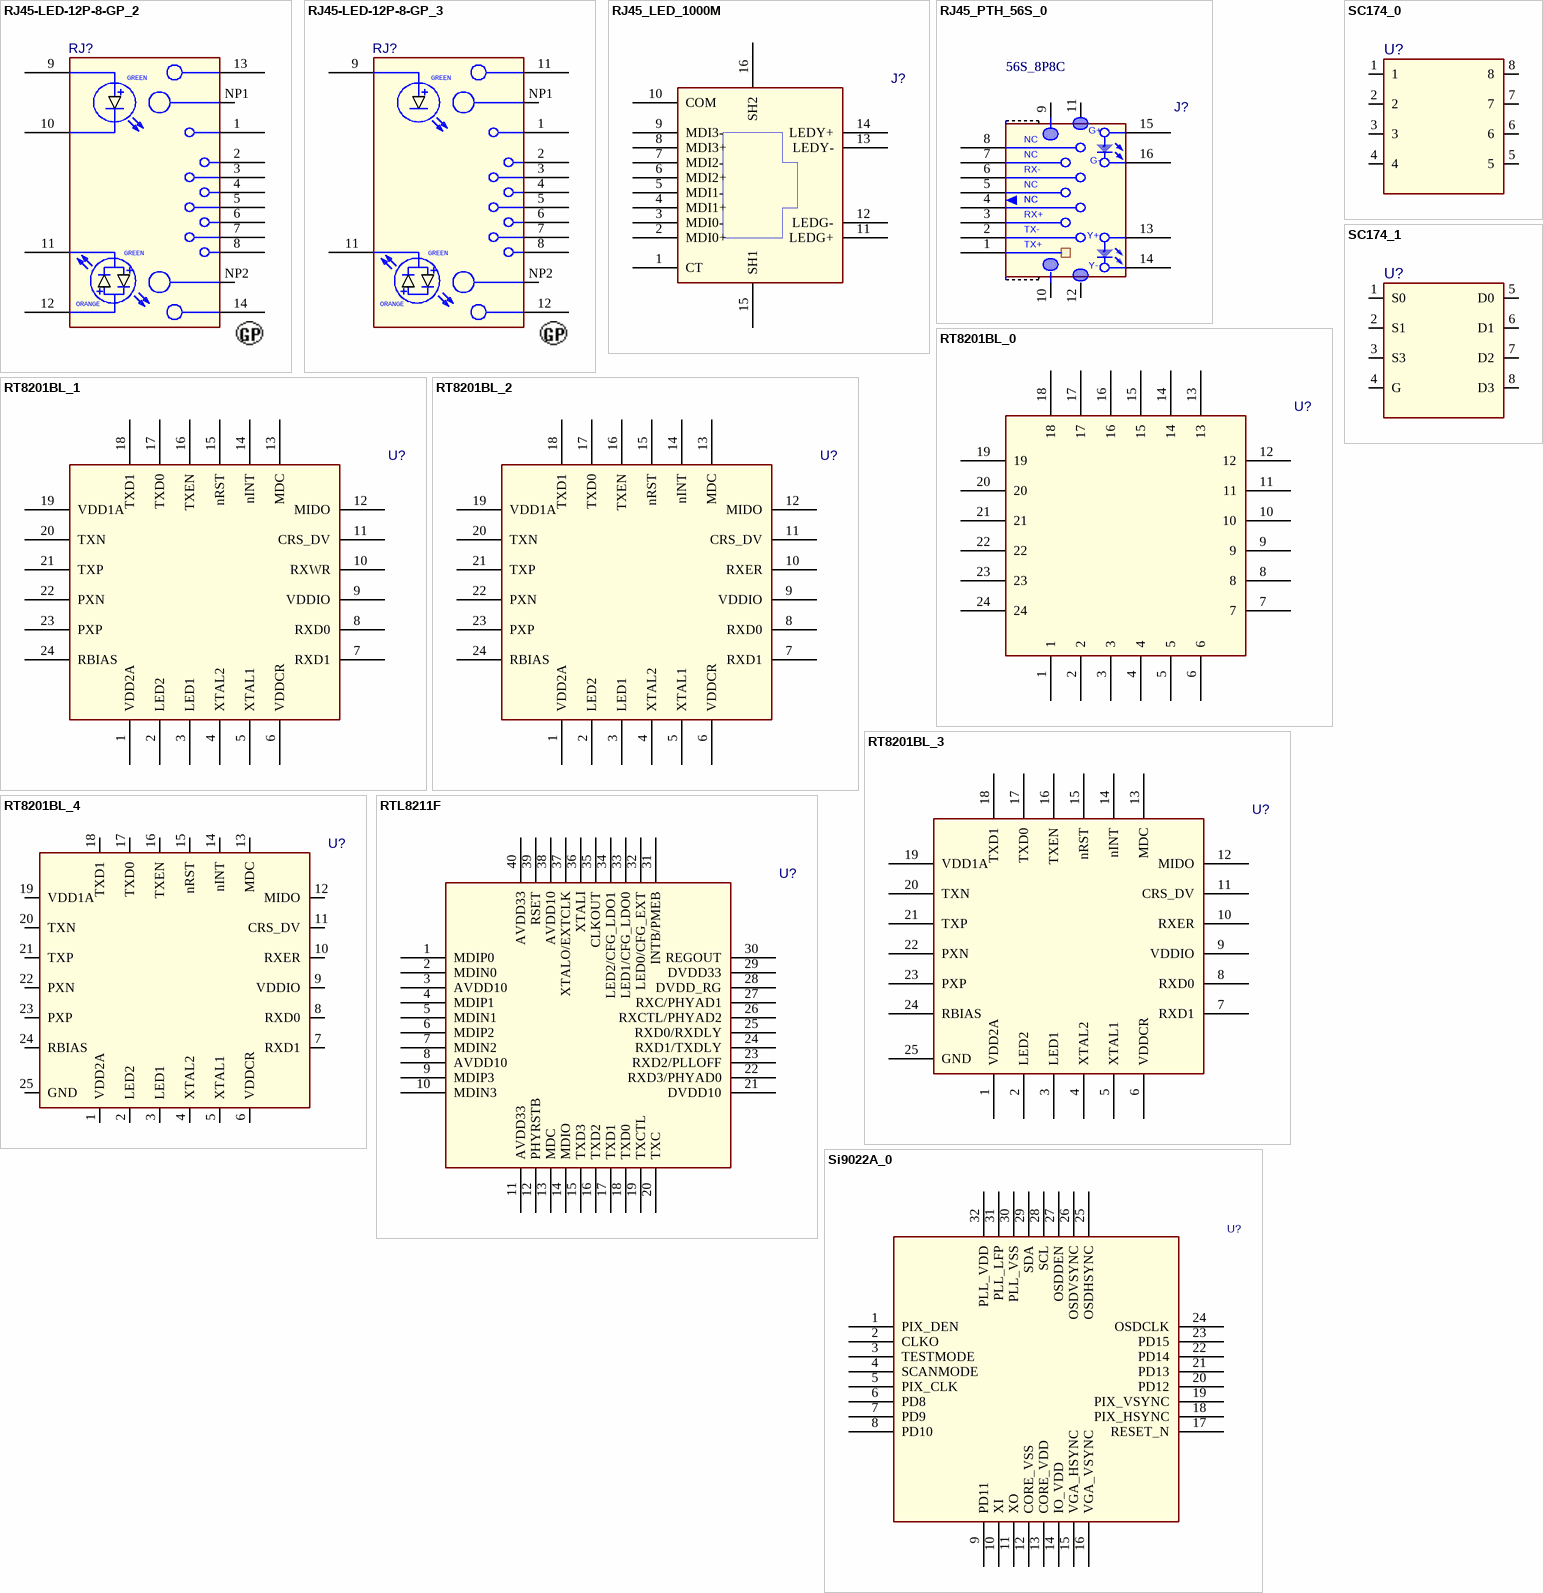
[diagram p4: symbols RJ45-LED-12P-8-GP_2 to Si9022A_0]

## RJ45-LED-12P-8-GP_2
designator RJ?
pins: 1 TX+, 2 TX-, 3 RX+, 4 CT1, 5 CT1, 6 RX-, 7 CT2, 8 CT2, 9 L4, 10 L3, 11 L2, 12 L1, 13 GND1, 14 GND2, NP1, NP2
text: GREEN; ORANGE

## RJ45-LED-12P-8-GP_3
designator RJ?
pins: 1 TX+, 2 TX-, 3 RX+, 4 CT1, 5 CT1, 6 RX-, 7 CT2, 8 CT2, 9 L4, 11 L2, 11 GND1, 12 GND2, NP1, NP2
text: GREEN; ORANGE

## RJ45_LED_1000M
designator J?
footprint HR911130A
pins: 1 CT, 2 MDI0+, 3 MDI0-, 4 MDI1+, 5 MDI1-, 6 MDI2+, 7 MDI2-, 8 MDI3+, 9 MDI3-, 10 COM, 11 LEDG+, 12 LEDG-, 13 LEDY-, 14 LEDY+, 15 SH1, 16 SH2

## RJ45_PTH_56S_0
designator J?, comment 56S_8P8C
Value: 56S_8P8C
footprint RJ45_PTH_56S_8P8C
pins: 1, 2, 3, 4, 5, 6, 7, 8, 9 SHELL3, 10 SHELL4, 11 shell2, 12 shell1, 13, 14, 15, 16
text: G+; NC; G-; RX-; RX+; TX-; Y+; TX+; Y-

## RT8201BL_0
designator U?
footprint QFP048_0050X0840
pins: 1, 2, 3, 4, 5, 6, 7, 8, 9, 10, 11, 12, 13, 14, 15, 16, 17, 18, 19, 20, 21, 22, 23, 24

## RT8201BL_1
designator U?
footprint QFP048_0050X0840
pins: 1 VDD2A, 2 LED2, 3 LED1, 4 XTAL2, 5 XTAL1, 6 VDDCR, 7 RXD1, 8 RXD0, 9 VDDIO, 10 RXWR, 11 CRS_DV, 12 MIDO, 13 MDC, 14 nINT, 15 nRST, 16 TXEN, 17 TXD0, 18 TXD1, 19 VDD1A, 20 TXN, 21 TXP, 22 PXN, 23 PXP, 24 RBIAS

## RT8201BL_2
designator U?
footprint QFP048_0050X0840
pins: 1 VDD2A, 2 LED2, 3 LED1, 4 XTAL2, 5 XTAL1, 6 VDDCR, 7 RXD1, 8 RXD0, 9 VDDIO, 10 RXER, 11 CRS_DV, 12 MIDO, 13 MDC, 14 nINT, 15 nRST, 16 TXEN, 17 TXD0, 18 TXD1, 19 VDD1A, 20 TXN, 21 TXP, 22 PXN, 23 PXP, 24 RBIAS

## RT8201BL_3
designator U?
footprint QFP048_0050X0840
pins: 1 VDD2A, 2 LED2, 3 LED1, 4 XTAL2, 5 XTAL1, 6 VDDCR, 7 RXD1, 8 RXD0, 9 VDDIO, 10 RXER, 11 CRS_DV, 12 MIDO, 13 MDC, 14 nINT, 15 nRST, 16 TXEN, 17 TXD0, 18 TXD1, 19 VDD1A, 20 TXN, 21 TXP, 22 PXN, 23 PXP, 24 RBIAS, 25 GND

## RT8201BL_4
designator U?
footprint QFP048_0050X0840
pins: 1 VDD2A, 2 LED2, 3 LED1, 4 XTAL2, 5 XTAL1, 6 VDDCR, 7 RXD1, 8 RXD0, 9 VDDIO, 10 RXER, 11 CRS_DV, 12 MIDO, 13 MDC, 14 nINT, 15 nRST, 16 TXEN, 17 TXD0, 18 TXD1, 19 VDD1A, 20 TXN, 21 TXP, 22 PXN, 23 PXP, 24 RBIAS, 25 GND

## RTL8211F
designator U?
footprint QFN40_GNDPAD
pins: 1 MDIP0, 2 MDIN0, 3 AVDD10 (power), 4 MDIP1, 5 MDIN1, 6 MDIP2, 7 MDIN2, 8 AVDD10 (power), 9 MDIP3, 10 MDIN3, 11 AVDD33 (power), 12 PHYRSTB, 13 MDC, 14 MDIO, 15 TXD3, 16 TXD2, 17 TXD1, 18 TXD0, 19 TXCTL, 20 TXC, 21 DVDD10 (power), 22 RXD3/PHYAD0, 23 RXD2/PLLOFF, 24 RXD1/TXDLY, 25 RXD0/RXDLY, 26 RXCTL/PHYAD2, 27 RXC/PHYAD1, 28 DVDD_RG, 29 DVDD33 (power), 30 REGOUT, 31 INTB/PMEB, 32 LED0/CFG_EXT, 33 LED1/CFG_LDO0, 34 LED2/CFG_LDO1, 35 CLKOUT, 36 XTALI, 37 XTALO/EXTCLK, 38 AVDD10 (power), 39 RSET, 40 AVDD33 (power)

## SC174_0
designator U?, comment SC174  (value not drawn)
PARTS: 1; LEVEL: STD; OriginalSymbolOrigin: (20,0); DEVICE: SC174; Value: SC174
pins: 1, 2, 3, 4, 5, 6, 7, 8

## SC174_1
designator U?, comment SC174  (value not drawn)
PARTS: 1; OriginalSymbolOrigin: (20,0); LEVEL: STD; DEVICE: SC174; Value: SC174
pins: 1 S0, 2 S1, 3 S3, 4 G, 5 D0, 6 D1, 7 D2, 8 D3

## Si9022A_0
designator U?
pins: 1 PIX_DEN, 2 CLKO, 3 TESTMODE, 4 SCANMODE, 5 PIX_CLK, 6 PD8, 7 PD9, 8 PD10, 9 PD11, 10 XI, 11 XO, 12 CORE_VSS, 13 CORE_VDD, 14 IO_VDD, 15 VGA_HSYNC, 16 VGA_VSYNC, 17 RESET_N, 18 PIX_HSYNC, 19 PIX_VSYNC, 20 PD12, 21 PD13, 22 PD14, 23 PD15, 24 OSDCLK, 25 OSDHSYNC, 26 OSDVSYNC, 27 OSDDEN, 28 SCL, 29 SDA, 30 PLL_VSS, 31 PLL_LFP, 32 PLL_VDD

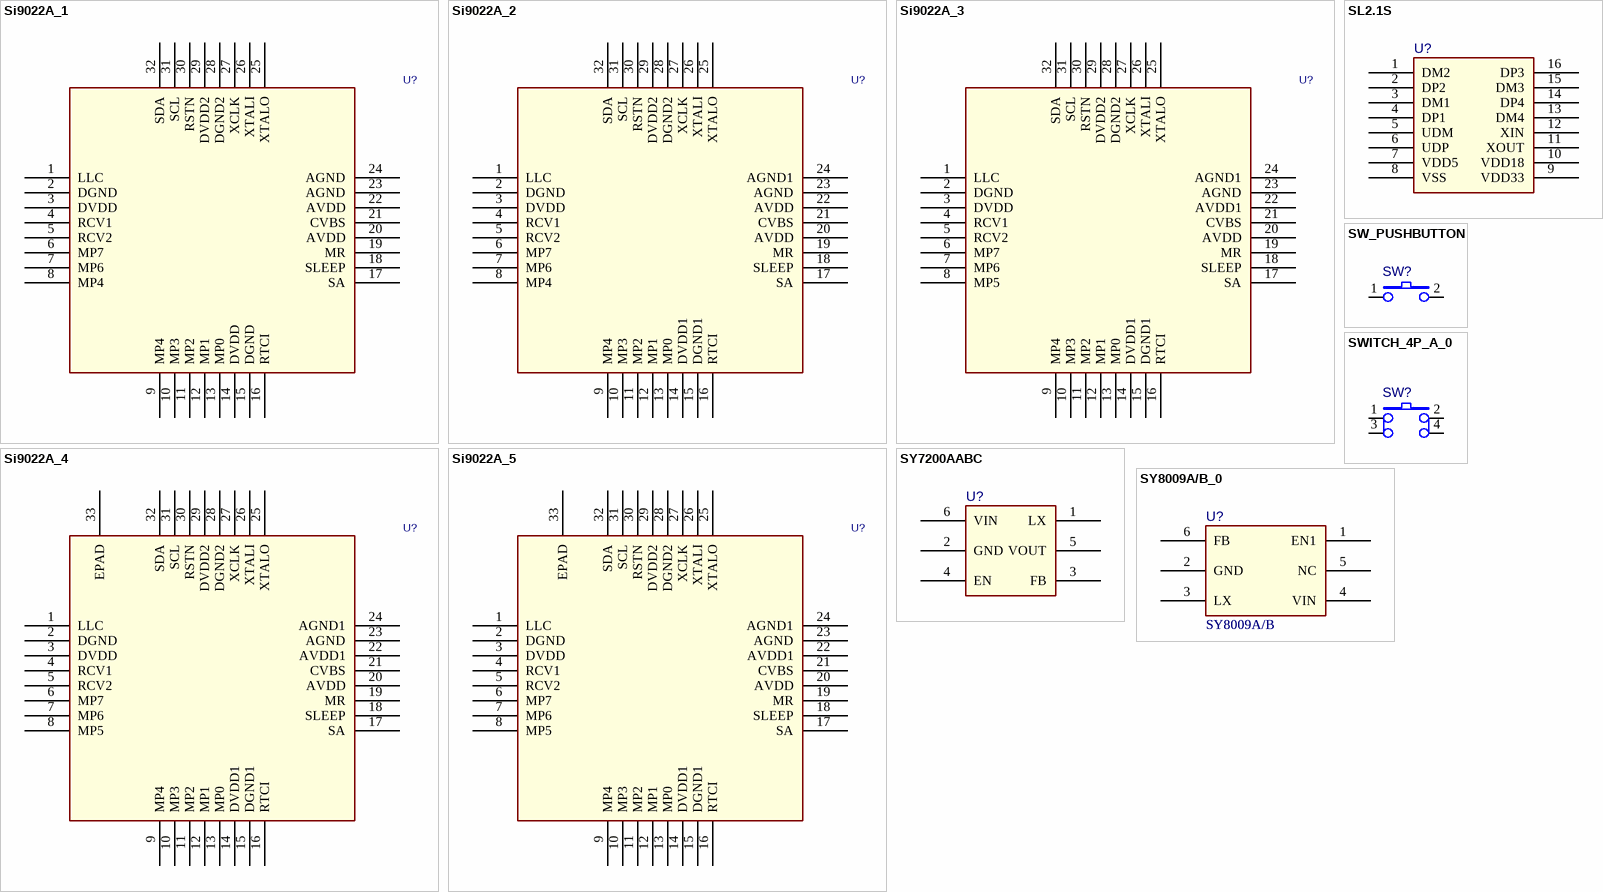
[diagram p5: symbols Si9022A_1 to SY8009A/B_0]

## Si9022A_1
designator U?
pins: 1 LLC, 2 DGND, 3 DVDD, 4 RCV1, 5 RCV2, 6 MP7, 7 MP6, 8 MP4, 9 MP4, 10 MP3, 11 MP2, 12 MP1, 13 MP0, 14 DVDD, 15 DGND, 16 RTCI, 17 SA, 18 SLEEP, 19 MR, 20 AVDD, 21 CVBS, 22 AVDD, 23 AGND, 24 AGND, 25 XTALO, 26 XTALI, 27 XCLK, 28 DGND2, 29 DVDD2, 30 RSTN, 31 SCL, 32 SDA

## Si9022A_2
designator U?
pins: 1 LLC, 2 DGND, 3 DVDD, 4 RCV1, 5 RCV2, 6 MP7, 7 MP6, 8 MP4, 9 MP4, 10 MP3, 11 MP2, 12 MP1, 13 MP0, 14 DVDD1, 15 DGND1, 16 RTCI, 17 SA, 18 SLEEP, 19 MR, 20 AVDD, 21 CVBS, 22 AVDD, 23 AGND, 24 AGND1, 25 XTALO, 26 XTALI, 27 XCLK, 28 DGND2, 29 DVDD2, 30 RSTN, 31 SCL, 32 SDA

## Si9022A_3
designator U?
pins: 1 LLC, 2 DGND, 3 DVDD, 4 RCV1, 5 RCV2, 6 MP7, 7 MP6, 8 MP5, 9 MP4, 10 MP3, 11 MP2, 12 MP1, 13 MP0, 14 DVDD1, 15 DGND1, 16 RTCI, 17 SA, 18 SLEEP, 19 MR, 20 AVDD, 21 CVBS, 22 AVDD1, 23 AGND, 24 AGND1, 25 XTALO, 26 XTALI, 27 XCLK, 28 DGND2, 29 DVDD2, 30 RSTN, 31 SCL, 32 SDA

## Si9022A_4
designator U?
pins: 1 LLC, 2 DGND, 3 DVDD, 4 RCV1, 5 RCV2, 6 MP7, 7 MP6, 8 MP5, 9 MP4, 10 MP3, 11 MP2, 12 MP1, 13 MP0, 14 DVDD1, 15 DGND1, 16 RTCI, 17 SA, 18 SLEEP, 19 MR, 20 AVDD, 21 CVBS, 22 AVDD1, 23 AGND, 24 AGND1, 25 XTALO, 26 XTALI, 27 XCLK, 28 DGND2, 29 DVDD2, 30 RSTN, 31 SCL, 32 SDA, 33 EPAD

## Si9022A_5
designator U?
pins: 1 LLC, 2 DGND, 3 DVDD, 4 RCV1, 5 RCV2, 6 MP7, 7 MP6, 8 MP5, 9 MP4, 10 MP3, 11 MP2, 12 MP1, 13 MP0, 14 DVDD1, 15 DGND1, 16 RTCI, 17 SA, 18 SLEEP, 19 MR, 20 AVDD, 21 CVBS, 22 AVDD1, 23 AGND, 24 AGND1, 25 XTALO, 26 XTALI, 27 XCLK, 28 DGND2, 29 DVDD2, 30 RSTN, 31 SCL, 32 SDA, 33 EPAD

## SL2.1S
designator U?
footprint SSOP16
pins: 1 DM2, 2 DP2, 3 DM1, 4 DP1, 5 UDM, 6 UDP, 7 VDD5, 8 VSS, 9 VDD33, 10 VDD18, 11 XOUT, 12 XIN, 13 DM4, 14 DP4, 15 DM3, 16 DP3

## SW_PUSHBUTTON
designator SW?
footprint SW6X6
pins: 1, 2

## SWITCH_4P_A_0
designator SW?
SDTSourceLibName: C:\WIND95\TEMP\6200.LIB; Package: package
pins: 1, 2, 3, 4

## SY7200AABC
designator U?
footprint SOT23-6
pins: 1 LX, 2 GND, 3 FB, 4 EN, 5 VOUT, 6 VIN

## SY8009A/B_0
designator U?, comment SY8009A/B
Value: SY8009A/B
footprint SOT23-6
pins: 1 EN1, 2 GND, 3 LX, 4 VIN (power), 5 NC, 6 FB

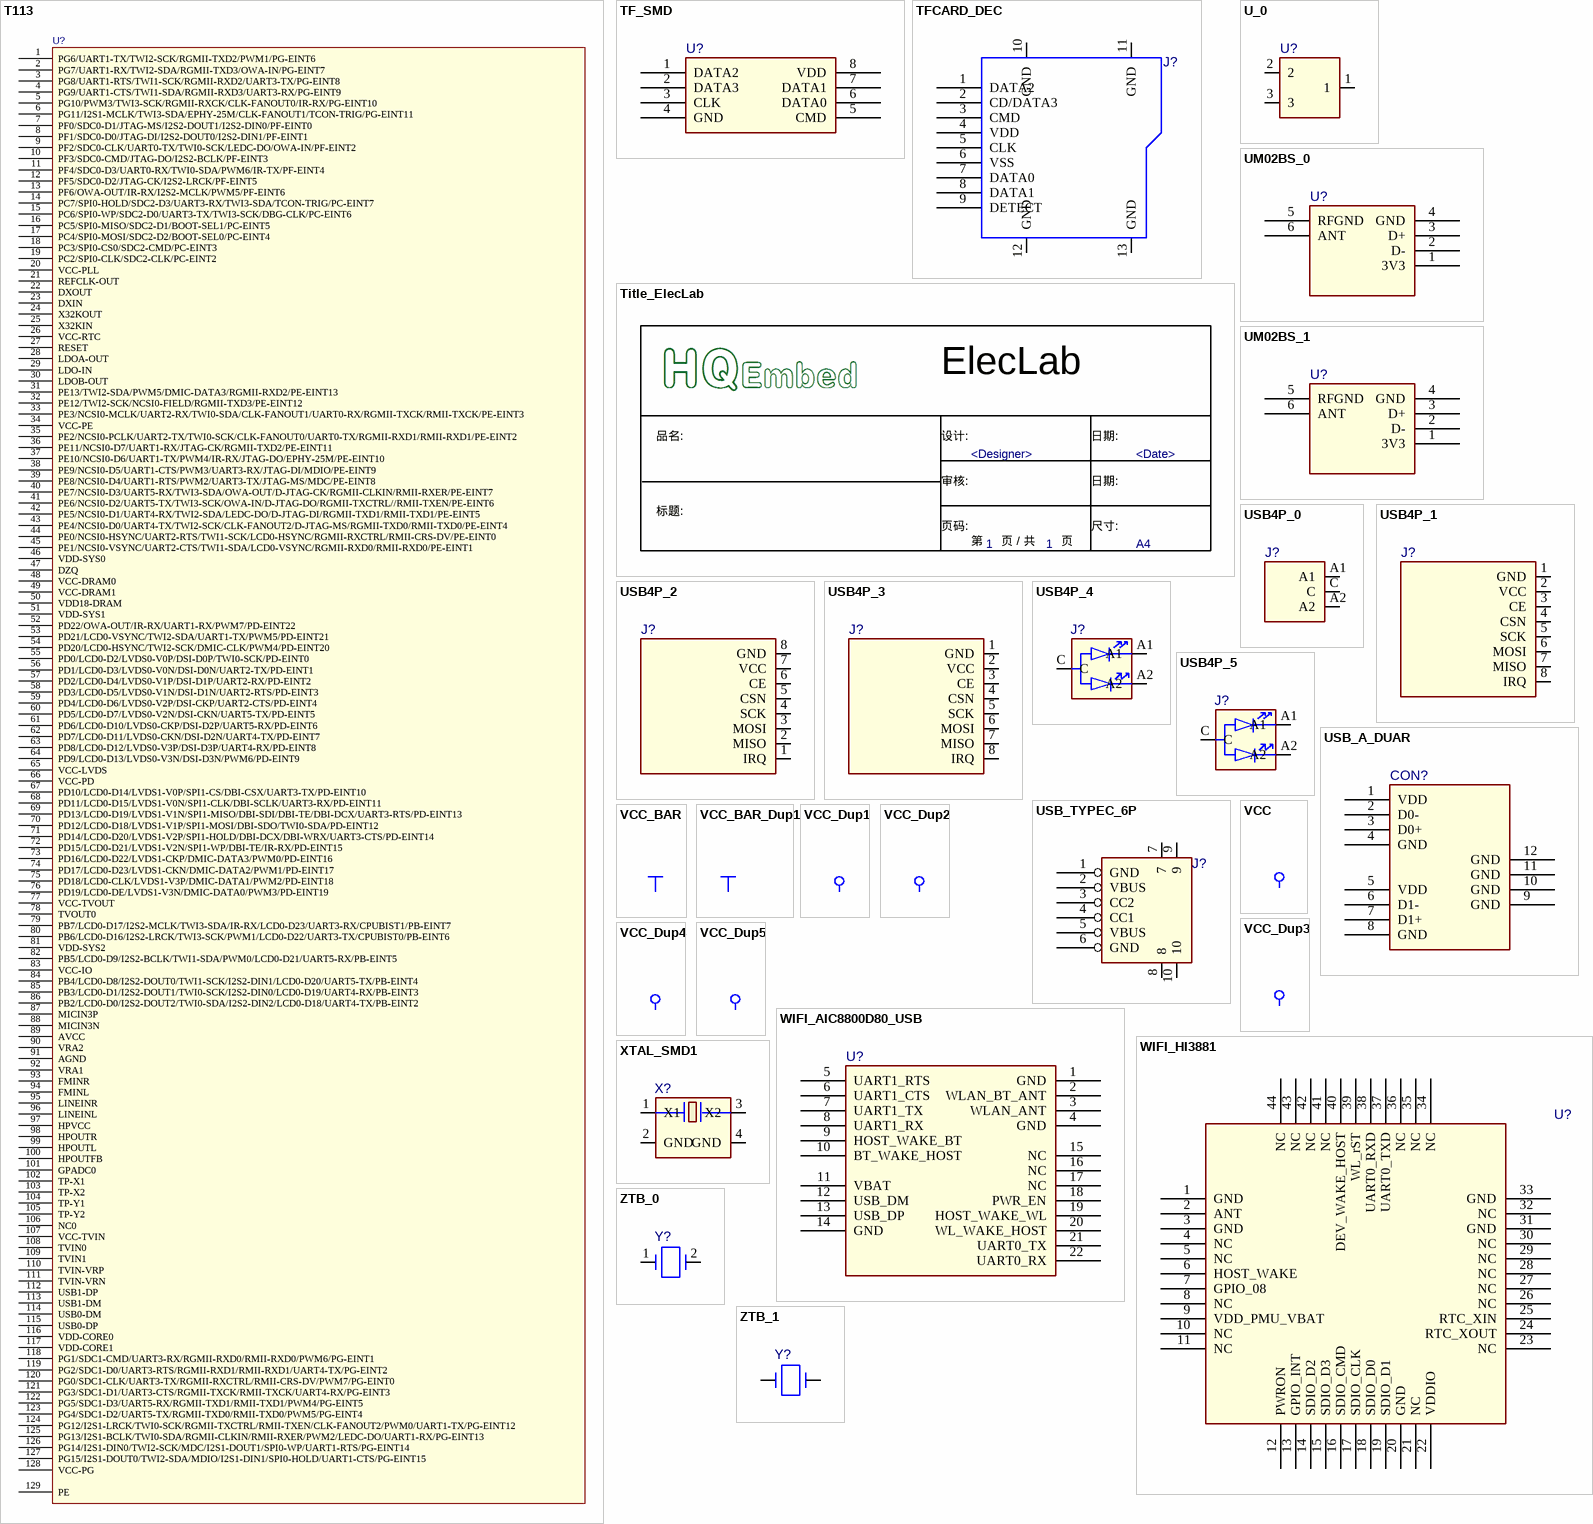
[diagram p6: symbols T113 to ZTB_1]

## T113
designator U?
footprint LQFP128_0P4_16X16_EP
pins: 1 PG6/UART1-TX/TWI2-SCK/RGMII-TXD2/PWM1/PG-EINT6, 2 PG7/UART1-RX/TWI2-SDA/RGMII-TXD3/OWA-IN/PG-EINT7, 3 PG8/UART1-RTS/TWI1-SCK/RGMII-RXD2/UART3-TX/PG-EINT8, 4 PG9/UART1-CTS/TWI1-SDA/RGMII-RXD3/UART3-RX/PG-EINT9, 5 PG10/PWM3/TWI3-SCK/RGMII-RXCK/CLK-FANOUT0/IR-RX/PG-EINT10, 6 PG11/I2S1-MCLK/TWI3-SDA/EPHY-25M/CLK-FANOUT1/TCON-TRIG/PG-EINT11, 7 PF0/SDC0-D1/JTAG-MS/I2S2-DOUT1/I2S2-DIN0/PF-EINT0, 8 PF1/SDC0-D0/JTAG-DI/I2S2-DOUT0/I2S2-DIN1/PF-EINT1, 9 PF2/SDC0-CLK/UART0-TX/TWI0-SCK/LEDC-DO/OWA-IN/PF-EINT2, 10 PF3/SDC0-CMD/JTAG-DO/I2S2-BCLK/PF-EINT3, 11 PF4/SDC0-D3/UART0-RX/TWI0-SDA/PWM6/IR-TX/PF-EINT4, 12 PF5/SDC0-D2/JTAG-CK/I2S2-LRCK/PF-EINT5, 13 PF6/OWA-OUT/IR-RX/I2S2-MCLK/PWM5/PF-EINT6, 14 PC7/SPI0-HOLD/SDC2-D3/UART3-RX/TWI3-SDA/TCON-TRIG/PC-EINT7, 15 PC6/SPI0-WP/SDC2-D0/UART3-TX/TWI3-SCK/DBG-CLK/PC-EINT6, 16 PC5/SPI0-MISO/SDC2-D1/BOOT-SEL1/PC-EINT5, 17 PC4/SPI0-MOSI/SDC2-D2/BOOT-SEL0/PC-EINT4, 18 PC3/SPI0-CS0/SDC2-CMD/PC-EINT3, 19 PC2/SPI0-CLK/SDC2-CLK/PC-EINT2, 20 VCC-PLL, 21 REFCLK-OUT, 22 DXOUT, 23 DXIN, 24 X32KOUT, 25 X32KIN, 26 VCC-RTC, 27 RESET, 28 LDOA-OUT, 29 LDO-IN, 30 LDOB-OUT, 31 PE13/TWI2-SDA/PWM5/DMIC-DATA3/RGMII-RXD2/PE-EINT13, 32 PE12/TWI2-SCK/NCSI0-FIELD/RGMII-TXD3/PE-EINT12, 33 PE3/NCSI0-MCLK/UART2-RX/TWI0-SDA/CLK-FANOUT1/UART0-RX/RGMII-TXCK/RMII-TXCK/PE-EINT3, 34 VCC-PE, 35 PE2/NCSI0-PCLK/UART2-TX/TWI0-SCK/CLK-FANOUT0/UART0-TX/RGMII-RXD1/RMII-RXD1/PE-EINT2, 36 PE11/NCSI0-D7/UART1-RX/JTAG-CK/RGMII-TXD2/PE-EINT11, 37 PE10/NCSI0-D6/UART1-TX/PWM4/IR-RX/JTAG-DO/EPHY-25M/PE-EINT10, 38 PE9/NCSI0-D5/UART1-CTS/PWM3/UART3-RX/JTAG-DI/MDIO/PE-EINT9, 39 PE8/NCSI0-D4/UART1-RTS/PWM2/UART3-TX/JTAG-MS/MDC/PE-EINT8, 40 PE7/NCSI0-D3/UART5-RX/TWI3-SDA/OWA-OUT/D-JTAG-CK/RGMII-CLKIN/RMII-RXER/PE-EINT7, 41 PE6/NCSI0-D2/UART5-TX/TWI3-SCK/OWA-IN/D-JTAG-DO/RGMII-TXCTRL//RMII-TXEN/PE-EINT6, 42 PE5/NCSI0-D1/UART4-RX/TWI2-SDA/LEDC-DO/D-JTAG-DI/RGMII-TXD1/RMII-TXD1/PE-EINT5, 43 PE4/NCSI0-D0/UART4-TX/TWI2-SCK/CLK-FANOUT2/D-JTAG-MS/RGMII-TXD0/RMII-TXD0/PE-EINT4, 44 PE0/NCSI0-HSYNC/UART2-RTS/TWI1-SCK/LCD0-HSYNC/RGMII-RXCTRL/RMII-CRS-DV/PE-EINT0, 45 PE1/NCSI0-VSYNC/UART2-CTS/TWI1-SDA/LCD0-VSYNC/RGMII-RXD0/RMII-RXD0/PE-EINT1, 46 VDD-SYS0, 47 DZQ, 48 VCC-DRAM0, 49 VCC-DRAM1, 50 VDD18-DRAM, 51 VDD-SYS1, 52 PD22/OWA-OUT/IR-RX/UART1-RX/PWM7/PD-EINT22, 53 PD21/LCD0-VSYNC/TWI2-SDA/UART1-TX/PWM5/PD-EINT21, 54 PD20/LCD0-HSYNC/TWI2-SCK/DMIC-CLK/PWM4/PD-EINT20, 55 PD0/LCD0-D2/LVDS0-V0P/DSI-D0P/TWI0-SCK/PD-EINT0, 56 PD1/LCD0-D3/LVDS0-V0N/DSI-D0N/UART2-TX/PD-EINT1, 57 PD2/LCD0-D4/LVDS0-V1P/DSI-D1P/UART2-RX/PD-EINT2, 58 PD3/LCD0-D5/LVDS0-V1N/DSI-D1N/UART2-RTS/PD-EINT3, 59 PD4/LCD0-D6/LVDS0-V2P/DSI-CKP/UART2-CTS/PD-EINT4, 60 PD5/LCD0-D7/LVDS0-V2N/DSI-CKN/UART5-TX/PD-EINT5, 61 PD6/LCD0-D10/LVDS0-CKP/DSI-D2P/UART5-RX/PD-EINT6, 62 PD7/LCD0-D11/LVDS0-CKN/DSI-D2N/UART4-TX/PD-EINT7, 63 PD8/LCD0-D12/LVDS0-V3P/DSI-D3P/UART4-RX/PD-EINT8, 64 PD9/LCD0-D13/LVDS0-V3N/DSI-D3N/PWM6/PD-EINT9, 65 VCC-LVDS, 66 VCC-PD, 67 PD10/LCD0-D14/LVDS1-V0P/SPI1-CS/DBI-CSX/UART3-TX/PD-EINT10, 68 PD11/LCD0-D15/LVDS1-V0N/SPI1-CLK/DBI-SCLK/UART3-RX/PD-EINT11, 69 PD13/LCD0-D19/LVDS1-V1N/SPI1-MISO/DBI-SDI/DBI-TE/DBI-DCX/UART3-RTS/PD-EINT13, 70 PD12/LCD0-D18/LVDS1-V1P/SPI1-MOSI/DBI-SDO/TWI0-SDA/PD-EINT12, 71 PD14/LCD0-D20/LVDS1-V2P/SPI1-HOLD/DBI-DCX/DBI-WRX/UART3-CTS/PD-EINT14, 72 PD15/LCD0-D21/LVDS1-V2N/SPI1-WP/DBI-TE/IR-RX/PD-EINT15, 73 PD16/LCD0-D22/LVDS1-CKP/DMIC-DATA3/PWM0/PD-EINT16, 74 PD17/LCD0-D23/LVDS1-CKN/DMIC-DATA2/PWM1/PD-EINT17, 75 PD18/LCD0-CLK/LVDS1-V3P/DMIC-DATA1/PWM2/PD-EINT18, 76 PD19/LCD0-DE/LVDS1-V3N/DMIC-DATA0/PWM3/PD-EINT19, 77 VCC-TVOUT, 78 TVOUT0, 79 PB7/LCD0-D17/I2S2-MCLK/TWI3-SDA/IR-RX/LCD0-D23/UART3-RX/CPUBIST1/PB-EINT7, 80 PB6/LCD0-D16/I2S2-LRCK/TWI3-SCK/PWM1/LCD0-D22/UART3-TX/CPUBIST0/PB-EINT6, 81 VDD-SYS2, 82 PB5/LCD0-D9/I2S2-BCLK/TWI1-SDA/PWM0/LCD0-D21/UART5-RX/PB-EINT5, 83 VCC-IO, 84 PB4/LCD0-D8/I2S2-DOUT0/TWI1-SCK/I2S2-DIN1/LCD0-D20/UART5-TX/PB-EINT4, 85 PB3/LCD0-D1/I2S2-DOUT1/TWI0-SCK/I2S2-DIN0/LCD0-D19/UART4-RX/PB-EINT3, 86 PB2/LCD0-D0/I2S2-DOUT2/TWI0-SDA/I2S2-DIN2/LCD0-D18/UART4-TX/PB-EINT2, 87 MICIN3P, 88 MICIN3N, 89 AVCC, 90 VRA2, 91 AGND, 92 VRA1, 93 FMINR, 94 FMINL, 95 LINEINR, 96 LINEINL, 97 HPVCC, 98 HPOUTR, 99 HPOUTL, 100 HPOUTFB, 101 GPADC0, 102 TP-X1, 103 TP-X2, 104 TP-Y1, 105 TP-Y2, 106 NC0, 107 VCC-TVIN, 108 TVIN0, 109 TVIN1, 110 TVIN-VRP, 111 TVIN-VRN, 112 USB1-DP, 113 USB1-DM, 114 USB0-DM, 115 USB0-DP, 116 VDD-CORE0, 117 VDD-CORE1, 118 PG1/SDC1-CMD/UART3-RX/RGMII-RXD0/RMII-RXD0/PWM6/PG-EINT1, 119 PG2/SDC1-D0/UART3-RTS/RGMII-RXD1/RMII-RXD1/UART4-TX/PG-EINT2, 120 PG0/SDC1-CLK/UART3-TX/RGMII-RXCTRL/RMII-CRS-DV/PWM7/PG-EINT0, 121 PG3/SDC1-D1/UART3-CTS/RGMII-TXCK/RMII-TXCK/UART4-RX/PG-EINT3, 122 PG5/SDC1-D3/UART5-RX/RGMII-TXD1/RMII-TXD1/PWM4/PG-EINT5, 123 PG4/SDC1-D2/UART5-TX/RGMII-TXD0/RMII-TXD0/PWM5/PG-EINT4, 124 PG12/I2S1-LRCK/TWI0-SCK/RGMII-TXCTRL/RMII-TXEN/CLK-FANOUT2/PWM0/UART1-TX/PG-EINT12, 125 PG13/I2S1-BCLK/TWI0-SDA/RGMII-CLKIN/RMII-RXER/PWM2/LEDC-DO/UART1-RX/PG-EINT13, 126 PG14/I2S1-DIN0/TWI2-SCK/MDC/I2S1-DOUT1/SPI0-WP/UART1-RTS/PG-EINT14, 127 PG15/I2S1-DOUT0/TWI2-SDA/MDIO/I2S1-DIN1/SPI0-HOLD/UART1-CTS/PG-EINT15, 128 VCC-PG, 129 PE

## TF_SMD
designator U?
footprint TF_SMD
pins: 1 DATA2, 2 DATA3, 3 CLK, 4 GND, 5 CMD, 6 DATA0, 7 DATA1, 8 VDD

## TFCARD_DEC
designator J?
footprint TFCARD_DEC
pins: 1 DATA2, 2 CD/DATA3, 3 CMD, 4 VDD, 5 CLK, 6 VSS, 7 DATA0, 8 DATA1, 9 DETECT, 10 GND, 11 GND, 12 GND, 13 GND

## Title_ElecLab
designator *  Date: <Date>  RevCode: A4  Page Number: 1  Designer: <Designer>  (hidden comment: *)  (graphical)
Page Size: NC; Page Create Date: March  8, 1995; Page Count: 1
text: ElecLab; 品名:; 设计:; 日期:; 审核:; 标题:; 页码:; 尺寸:; 第; 页 / 共; 页

## U_0
designator U?
footprint 056V
pins: 1, 2, 3

## UM02BS_0
designator U?
pins: 1 3V3, 2 D-, 3 D+, 4 GND (power), 5 RFGND, 6 ANT

## UM02BS_1
designator U?
pins: 1 3V3, 2 D-, 3 D+, 4 GND, 5 RFGND, 6 ANT

## USB4P_0
designator J?
footprint usbport6
pins: A1, A2, C

## USB4P_1
designator J?
footprint usbport6
pins: 1 GND, 2 VCC, 3 CE, 4 CSN, 5 SCK, 6 MOSI, 7 MISO, 8 IRQ

## USB4P_2
designator J?
footprint usbport6
pins: 1 IRQ, 2 MISO, 3 MOSI, 4 SCK, 5 CSN, 6 CE, 7 VCC, 8 GND

## USB4P_3
designator J?
footprint usbport6
pins: 1 GND, 2 VCC, 3 CE, 4 CSN, 5 SCK, 6 MOSI, 7 MISO, 8 IRQ

## USB4P_4
designator J?
footprint usbport6
pins: A1, A2, C

## USB4P_5
designator J?
footprint usbport6
pins: A1, A2, C

## USB_A_DUAR
designator CON?
footprint USB_A_DUAL
pins: 1 VDD, 2 D0-, 3 D0+, 4 GND, 5 VDD, 6 D1-, 7 D1+, 8 GND, 9 GND, 10 GND, 11 GND, 12 GND

## USB_TYPEC_6P
designator J?
footprint USB_TYPEC_6P
pins: 1 GND, 2 VBUS, 3 CC2, 4 CC1, 5 VBUS, 6 GND, 7, 8, 9, 10

## VCC
designator *  (value not drawn)  (graphical)
pins: $PIN0 (power) hidden to $PIN0

## VCC_BAR
designator *  (value not drawn)  (graphical)
pins: $PIN0 (power) hidden to $PIN0

## VCC_BAR_Dup1
designator *  (value not drawn)  (graphical)
pins: VCC (out)

## VCC_Dup1
designator *  (value not drawn)  (graphical)
pins: $PIN0 (power) hidden to $PIN0

## VCC_Dup2
designator *  (value not drawn)  (graphical)
pins: $PIN0 (power) hidden to $PIN0

## VCC_Dup3
designator *  (value not drawn)  (graphical)
pins: $PIN0 (power) hidden to $PIN0

## VCC_Dup4
designator *  (value not drawn)  (graphical)
pins: $PIN0 (power) hidden to $PIN0

## VCC_Dup5
designator *  (value not drawn)  (graphical)
pins: $PIN0 (power) hidden to $PIN0

## WIFI_AIC8800D80_USB
designator U?
footprint WIFI_AIC8800D80_USB
pins: 1 GND, 2 WLAN_BT_ANT, 3 WLAN_ANT, 4 GND, 5 UART1_RTS, 6 UART1_CTS, 7 UART1_TX, 8 UART1_RX, 9 HOST_WAKE_BT, 10 BT_WAKE_HOST, 11 VBAT, 12 USB_DM, 13 USB_DP, 14 GND, 15 NC, 16 NC, 17 NC, 18 PWR_EN, 19 HOST_WAKE_WL, 20 WL_WAKE_HOST, 21 UART0_TX, 22 UART0_RX

## WIFI_HI3881
designator U?
footprint WIFI_HI3881
pins: 1 GND, 2 ANT, 3 GND, 4 NC, 5 NC, 6 HOST_WAKE, 7 GPIO_08, 8 NC, 9 VDD_PMU_VBAT, 10 NC, 11 NC, 12 PWRON, 13 GPIO_INT, 14 SDIO_D2, 15 SDIO_D3, 16 SDIO_CMD, 17 SDIO_CLK, 18 SDIO_D0, 19 SDIO_D1, 20 GND, 21 NC, 22 VDDIO, 23 NC, 24 RTC_XOUT, 25 RTC_XIN, 26 NC, 27 NC, 28 NC, 29 NC, 30 NC, 31 GND, 32 NC, 33 GND, 34 NC, 35 NC, 36 NC, 37 UART0_TXD, 38 UART0_RXD, 39 WL_rST, 40 DEV_WAKE_HOST, 41 NC, 42 NC, 43 NC, 44 NC

## XTAL_SMD1
designator X?
footprint XTAL_SMD_6035
pins: 1 X1, 2 GND (power), 3 X2, 4 GND

## ZTB_0
designator Y?
pins: 1, 2

## ZTB_1
designator Y?
pins: 1, 2